# Altium integrated library Actel ProASIC3.IntLib: 465 symbols (part 19 of 68)
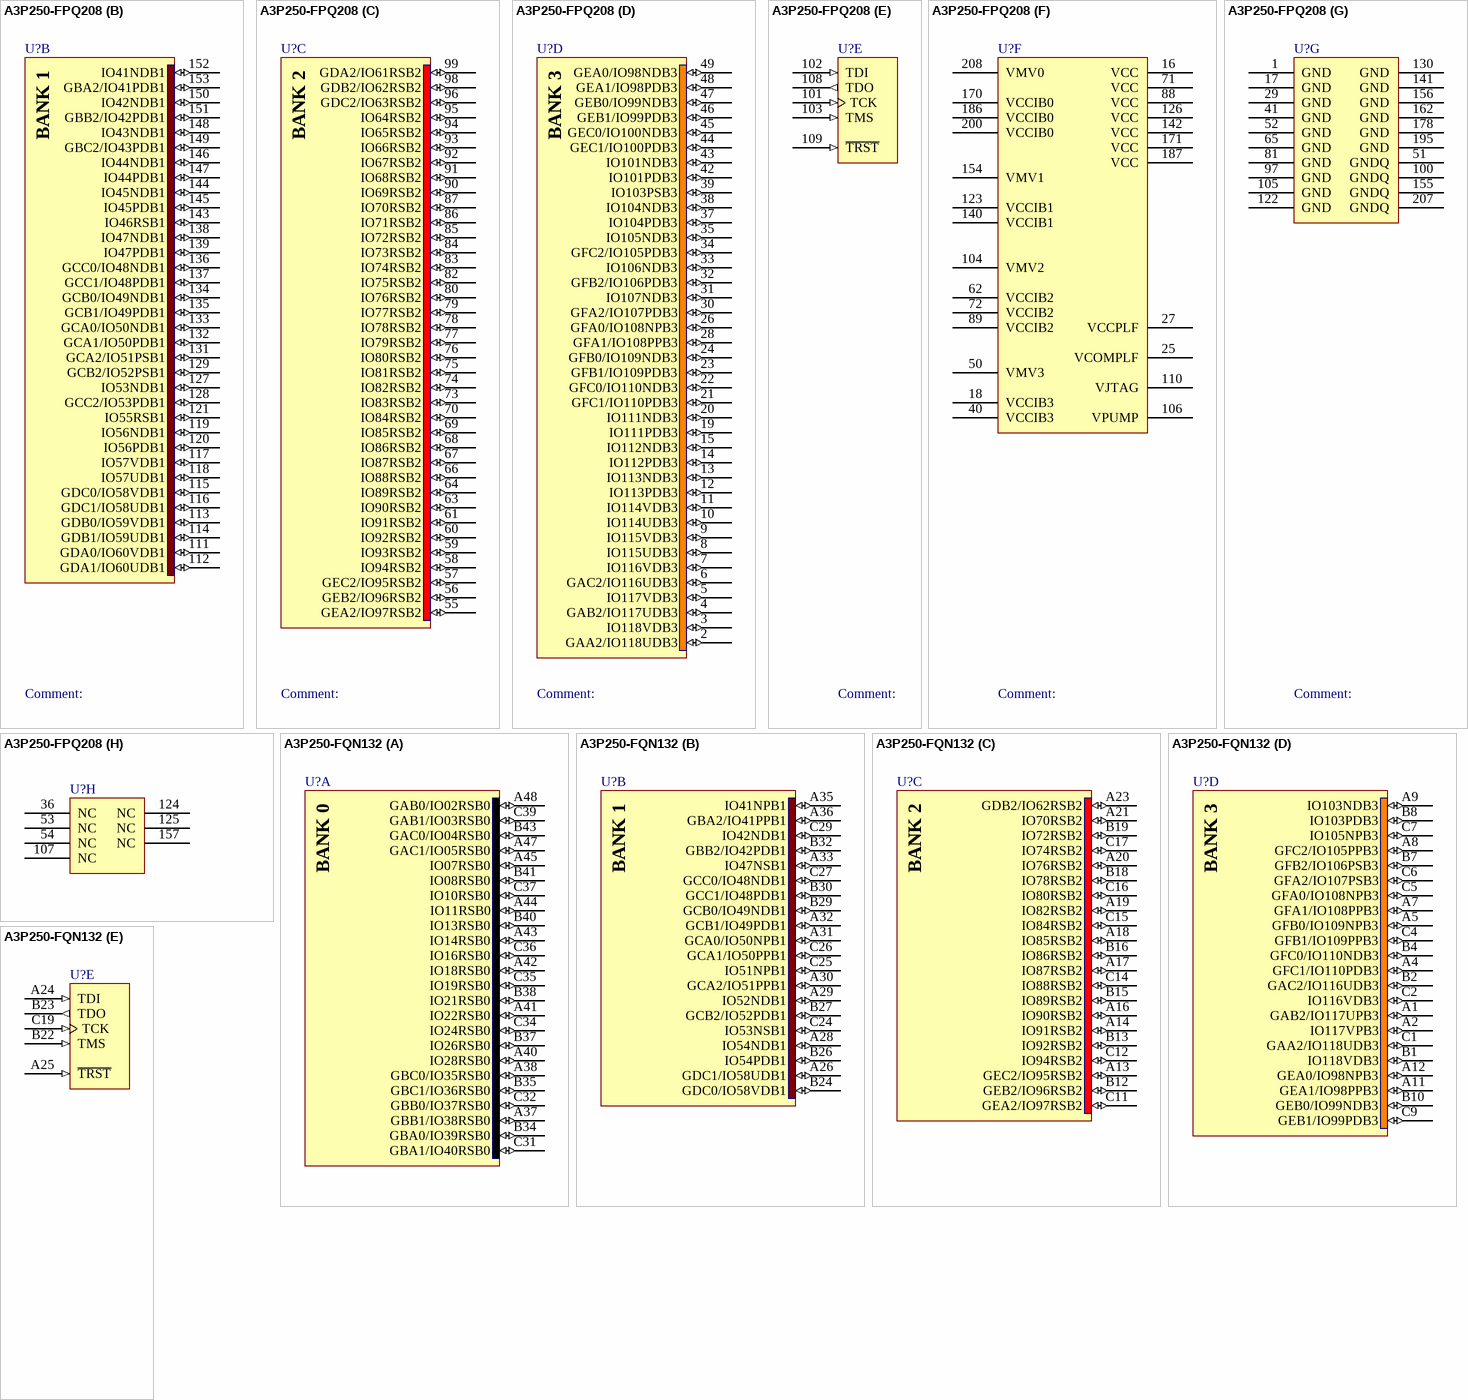
[diagram p333: symbols A3P250-FPQ208 to A3P250-FQN132]

## A3P250-FPQ208
designator U?
ProASIC3 Flash Family FPGA, 151 User IOs, 250K System Gates, 36 Kbits RAM, 1 Kbit Flash ROM, 1 PLL, 208-Pin PQFP, Commercial Grade; ComponentAvailability: F speed grade removed in ver1.3, Oct-2009 datasheet.; Published: 4-Mar-2005; LatestRevisionDate: 11-Dec-2009; LatestRevisionNote: Updated to datasheet version 1.3 Oct-2009.; DatasheetVersion: v1.1, Feb-2009; PackageVersion: ver11.2, Nov-2009; PackageReference: PQ208; Publisher: Altium Limited; PackageDescription: 208-Pin Plastic Quad Flat Pack (PQ208); Code_JEDEC: MS-029-FA-1; ComponentLink1Description: ProASIC3 Datasheet; ComponentLink1URL: http://www.actel.com/documents/PA3_DS.pdf; ComponentLink2Description: Package Mechanical Drawings; ComponentLink2URL: http://www.actel.com/documents/PckgMechDrwngs.pdf; ComponentLink3Description: ProASIC3 Documents; ComponentLink3URL: http://www.actel.com/products/pa3/docs.aspx; ComponentLink4Description: Actel.com Home; ComponentLink4URL: http://www.actel.com/
footprint PQ208_N (Shrink QFP, 208-Leads, Body 28x28mm, Pitch 0.5mm, IPC Medium Density)
footprint PQ208_L (Shrink QFP, 208-Leads, Body 28x28mm, Pitch 0.5mm, IPC High Density)
footprint PQ208_M (Shrink QFP, 208-Leads, Body 28x28mm, Pitch 0.5mm, IPC Low Density)
signal-integrity model A3P250_PQ208 (ProASIC3)
part A pins: 158 GBA1/IO40RSB0 (io), 159 GBA0/IO39RSB0 (io), 160 GBB1/IO38RSB0 (io), 161 GBB0/IO37RSB0 (io), 163 GBC1/IO36RSB0 (io), 164 GBC0/IO35RSB0 (io), 165 IO34RSB0 (io), 166 IO33RSB0 (io), 167 IO32RSB0 (io), 168 IO31RSB0 (io), 169 IO30RSB0 (io), 172 IO29RSB0 (io), 173 IO28RSB0 (io), 174 IO27RSB0 (io), 175 IO26RSB0 (io), 176 IO25RSB0 (io), 177 IO24RSB0 (io), 179 IO23RSB0 (io), 180 IO22RSB0 (io), 181 IO21RSB0 (io), 182 IO20RSB0 (io), 183 IO19RSB0 (io), 184 IO18RSB0 (io), 185 IO17RSB0 (io), 188 IO16RSB0 (io), 189 IO15RSB0 (io), 190 IO14RSB0 (io), 191 IO13RSB0 (io), 192 IO12RSB0 (io), 193 IO11RSB0 (io), 194 IO10RSB0 (io), 196 IO09RSB0 (io), 197 IO08RSB0 (io), 198 IO07RSB0 (io), 199 IO06RSB0 (io), 201 GAC1/IO05RSB0 (io), 202 GAC0/IO04RSB0 (io), 203 GAB1/IO03RSB0 (io), 204 GAB0/IO02RSB0 (io), 205 GAA1/IO01RSB0 (io), 206 GAA0/IO00RSB0 (io)
part B pins: 111 GDA0/IO60VDB1 (io), 112 GDA1/IO60UDB1 (io), 113 GDB0/IO59VDB1 (io), 114 GDB1/IO59UDB1 (io), 115 GDC0/IO58VDB1 (io), 116 GDC1/IO58UDB1 (io), 117 IO57VDB1 (io), 118 IO57UDB1 (io), 119 IO56NDB1 (io), 120 IO56PDB1 (io), 121 IO55RSB1 (io), 127 IO53NDB1 (io), 128 GCC2/IO53PDB1 (io), 129 GCB2/IO52PSB1 (io), 131 GCA2/IO51PSB1 (io), 132 GCA1/IO50PDB1 (io), 133 GCA0/IO50NDB1 (io), 134 GCB0/IO49NDB1 (io), 135 GCB1/IO49PDB1 (io), 136 GCC0/IO48NDB1 (io), 137 GCC1/IO48PDB1 (io), 138 IO47NDB1 (io), 139 IO47PDB1 (io), 143 IO46RSB1 (io), 144 IO45NDB1 (io), 145 IO45PDB1 (io), 146 IO44NDB1 (io), 147 IO44PDB1 (io), 148 IO43NDB1 (io), 149 GBC2/IO43PDB1 (io), 150 IO42NDB1 (io), 151 GBB2/IO42PDB1 (io), 152 IO41NDB1 (io), 153 GBA2/IO41PDB1 (io)
part C pins: 55 GEA2/IO97RSB2 (io), 56 GEB2/IO96RSB2 (io), 57 GEC2/IO95RSB2 (io), 58 IO94RSB2 (io), 59 IO93RSB2 (io), 60 IO92RSB2 (io), 61 IO91RSB2 (io), 63 IO90RSB2 (io), 64 IO89RSB2 (io), 66 IO88RSB2 (io), 67 IO87RSB2 (io), 68 IO86RSB2 (io), 69 IO85RSB2 (io), 70 IO84RSB2 (io), 73 IO83RSB2 (io), 74 IO82RSB2 (io), 75 IO81RSB2 (io), 76 IO80RSB2 (io), 77 IO79RSB2 (io), 78 IO78RSB2 (io), 79 IO77RSB2 (io), 80 IO76RSB2 (io), 82 IO75RSB2 (io), 83 IO74RSB2 (io), 84 IO73RSB2 (io), 85 IO72RSB2 (io), 86 IO71RSB2 (io), 87 IO70RSB2 (io), 90 IO69RSB2 (io), 91 IO68RSB2 (io), 92 IO67RSB2 (io), 93 IO66RSB2 (io), 94 IO65RSB2 (io), 95 IO64RSB2 (io), 96 GDC2/IO63RSB2 (io), 98 GDB2/IO62RSB2 (io), 99 GDA2/IO61RSB2 (io)
part D pins: 2 GAA2/IO118UDB3 (io), 3 IO118VDB3 (io), 4 GAB2/IO117UDB3 (io), 5 IO117VDB3 (io), 6 GAC2/IO116UDB3 (io), 7 IO116VDB3 (io), 8 IO115UDB3 (io), 9 IO115VDB3 (io), 10 IO114UDB3 (io), 11 IO114VDB3 (io), 12 IO113PDB3 (io), 13 IO113NDB3 (io), 14 IO112PDB3 (io), 15 IO112NDB3 (io), 19 IO111PDB3 (io), 20 IO111NDB3 (io), 21 GFC1/IO110PDB3 (io), 22 GFC0/IO110NDB3 (io), 23 GFB1/IO109PDB3 (io), 24 GFB0/IO109NDB3 (io), 26 GFA0/IO108NPB3 (io), 28 GFA1/IO108PPB3 (io), 30 GFA2/IO107PDB3 (io), 31 IO107NDB3 (io), 32 GFB2/IO106PDB3 (io), 33 IO106NDB3 (io), 34 GFC2/IO105PDB3 (io), 35 IO105NDB3 (io), 37 IO104PDB3 (io), 38 IO104NDB3 (io), 39 IO103PSB3 (io), 42 IO101PDB3 (io), 43 IO101NDB3 (io), 44 GEC1/IO100PDB3 (io), 45 GEC0/IO100NDB3 (io), 46 GEB1/IO99PDB3 (io), 47 GEB0/IO99NDB3 (io), 48 GEA1/IO98PDB3 (io), 49 GEA0/IO98NDB3 (io)
part E pins: 101 TCK (in), 102 TDI (in), 103 TMS (in), 108 TDO (out), 109 ~{TRST} (in)
part F pins: 16 VCC (power), 18 VCCIB3 (power), 25 VCOMPLF (power), 27 VCCPLF (power), 40 VCCIB3 (power), 50 VMV3 (power), 62 VCCIB2 (power), 71 VCC (power), 72 VCCIB2 (power), 88 VCC (power), 89 VCCIB2 (power), 104 VMV2 (power), 106 VPUMP (power), 110 VJTAG (power), 123 VCCIB1 (power), 126 VCC (power), 140 VCCIB1 (power), 142 VCC (power), 154 VMV1 (power), 170 VCCIB0 (power), 171 VCC (power), 186 VCCIB0 (power), 187 VCC (power), 200 VCCIB0 (power), 208 VMV0 (power)
part G pins: 1 GND (power), 17 GND (power), 29 GND (power), 41 GND (power), 51 GNDQ (power), 52 GND (power), 65 GND (power), 81 GND (power), 97 GND (power), 100 GNDQ (power), 105 GND (power), 122 GND (power), 130 GND (power), 141 GND (power), 155 GNDQ (power), 156 GND (power), 162 GND (power), 178 GND (power), 195 GND (power), 207 GNDQ (power)
part H pins: 36 NC, 53 NC, 54 NC, 107 NC, 124 NC, 125 NC, 157 NC
part A text: BANK 0
part B text: BANK 1
part C text: BANK 2
part D text: BANK 3

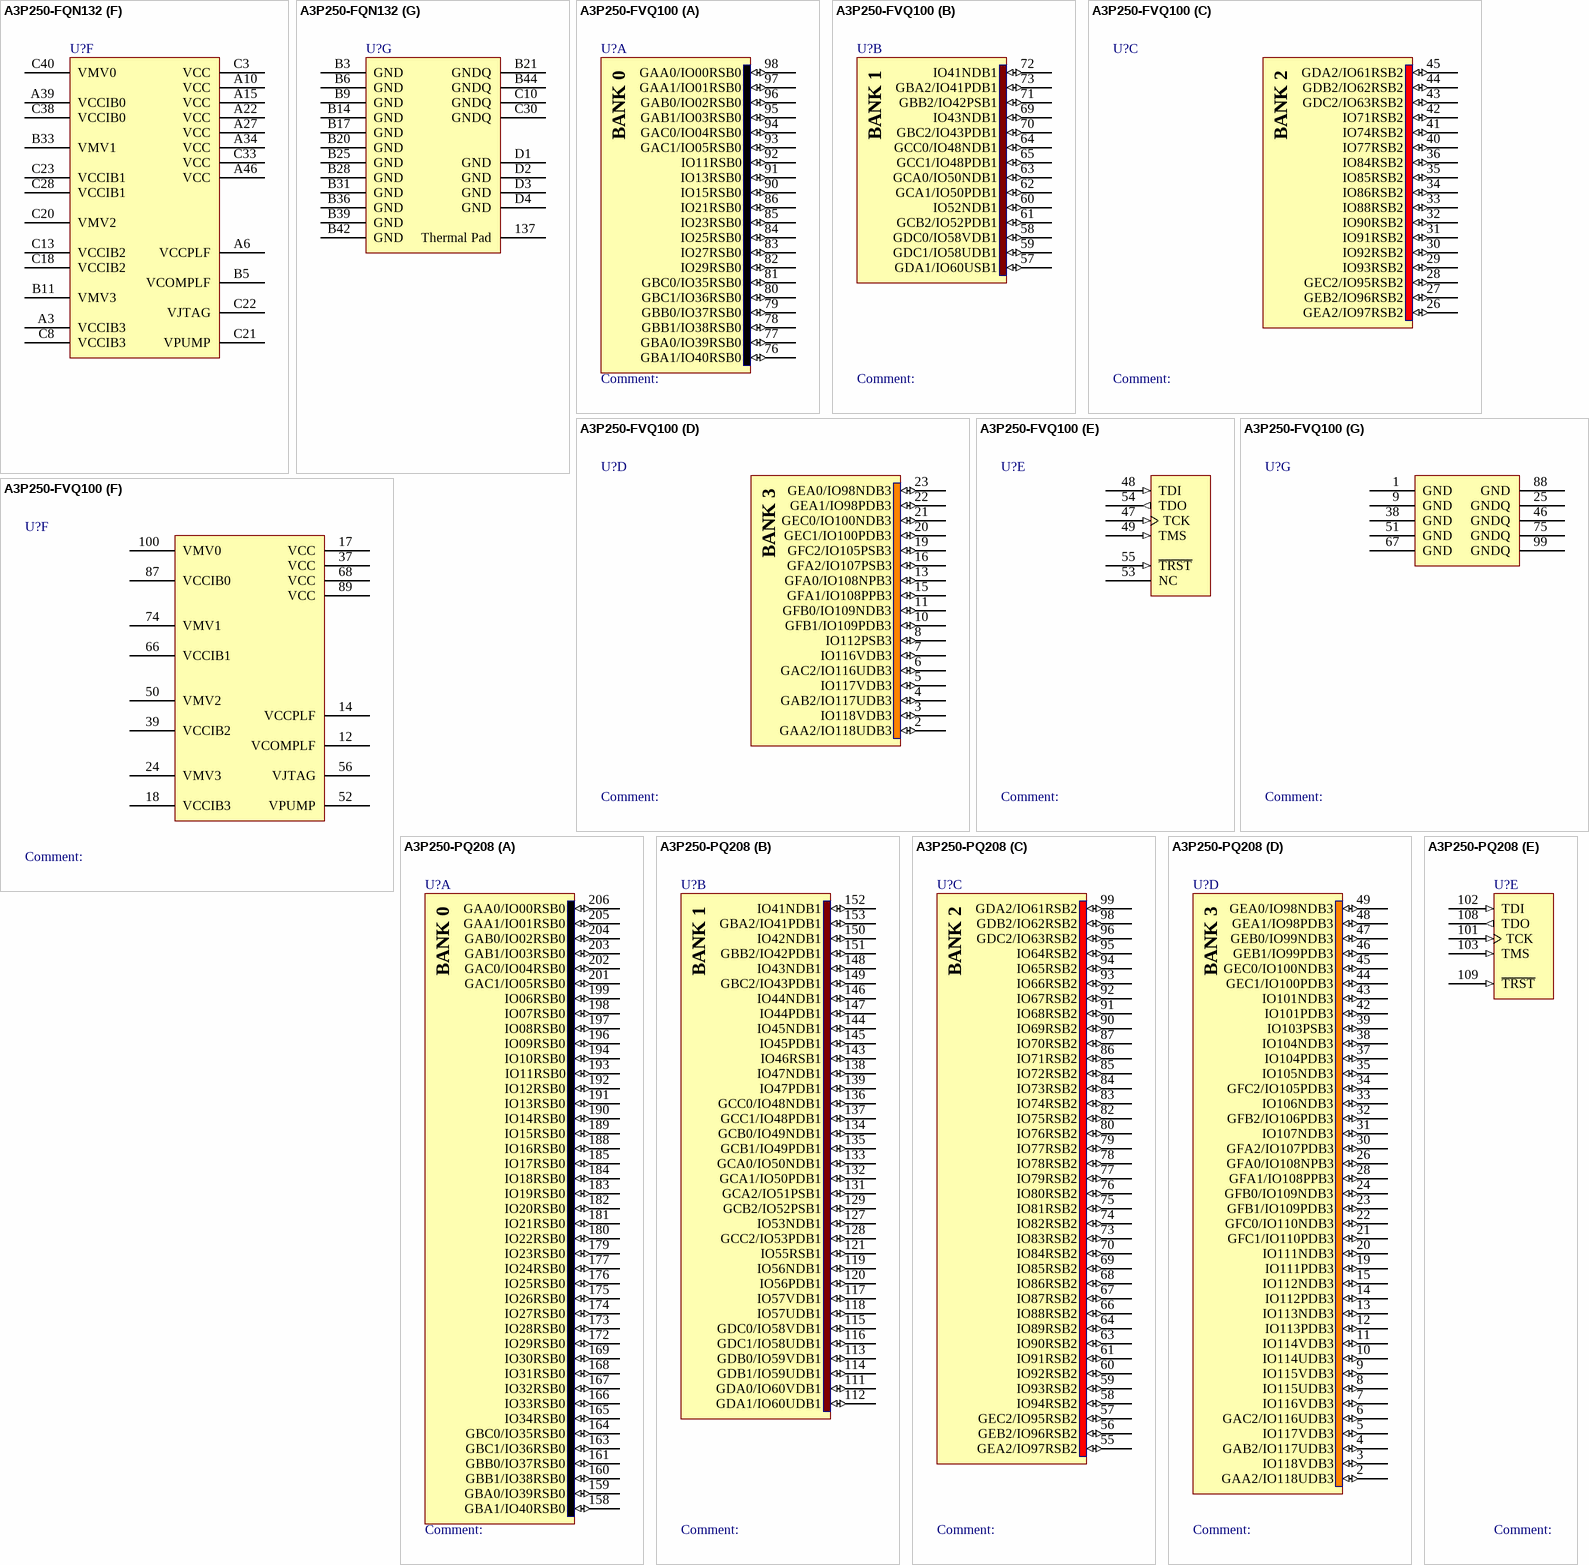
[diagram p77: symbols A3P250-FQN132 to A3P250-PQ208]

## A3P250-FQN132
designator U?
ProASIC3 Flash Family FPGA, 87 User IOs, 250K System Gates, 36 Kbits RAM, 1 Kbit ProASIC3 Flash ROM, 1 PLL, 132-Pin QFN, Commercial Grade; ComponentAvailability: F speed grade removed in ver1.3, Oct-2009 datasheet.; Published: 30-Mar-2007; LatestRevisionDate: 11-Dec-2009; LatestRevisionNote: Updated to datasheet version 1.3 Oct-2009.; DatasheetVersion: v1.1, Feb-2009; PackageVersion: ver11.2, Nov-2009; PackageReference: QN132; Publisher: Altium Limited; PackageDescription: 132-Pin Quad Flat Pack No-Leads (QN132); ComponentLink1Description: ProASIC3 Datasheet; ComponentLink1URL: http://www.actel.com/documents/PA3_DS.pdf; ComponentLink2Description: Package Mechanical Drawings; ComponentLink2URL: http://www.actel.com/documents/PckgMechDrwngs.pdf; ComponentLink3Description: ProASIC3 Documents; ComponentLink3URL: http://www.actel.com/products/pa3/docs.aspx; ComponentLink4Description: Actel.com Home; ComponentLink4URL: http://www.actel.com/
footprint QN132 (QFN, 132-Leads, Body 8x8mm, Pitch 0.5mm)
signal-integrity model A3P250_QN132 (ProASIC3)
part A pins: A37 GBB1/IO38RSB0 (io), A38 GBC0/IO35RSB0 (io), A40 IO28RSB0 (io), A41 IO22RSB0 (io), A42 IO18RSB0 (io), A43 IO14RSB0 (io), A44 IO11RSB0 (io), A45 IO07RSB0 (io), A47 GAC1/IO05RSB0 (io), A48 GAB0/IO02RSB0 (io), B34 GBA0/IO39RSB0 (io), B35 GBC1/IO36RSB0 (io), B37 IO26RSB0 (io), B38 IO21RSB0 (io), B40 IO13RSB0 (io), B41 IO08RSB0 (io), B43 GAC0/IO04RSB0 (io), C31 GBA1/IO40RSB0 (io), C32 GBB0/IO37RSB0 (io), C34 IO24RSB0 (io), C35 IO19RSB0 (io), C36 IO16RSB0 (io), C37 IO10RSB0 (io), C39 GAB1/IO03RSB0 (io)
part B pins: A26 GDC1/IO58UDB1 (io), A28 IO54NDB1 (io), A29 IO52NDB1 (io), A30 GCA2/IO51PPB1 (io), A31 GCA0/IO50NPB1 (io), A32 GCB1/IO49PDB1 (io), A33 IO47NSB1 (io), A35 IO41NPB1 (io), A36 GBA2/IO41PPB1 (io), B24 GDC0/IO58VDB1 (io), B26 IO54PDB1 (io), B27 GCB2/IO52PDB1 (io), B29 GCB0/IO49NDB1 (io), B30 GCC1/IO48PDB1 (io), B32 GBB2/IO42PDB1 (io), C24 IO53NSB1 (io), C25 IO51NPB1 (io), C26 GCA1/IO50PPB1 (io), C27 GCC0/IO48NDB1 (io), C29 IO42NDB1 (io)
part C pins: A13 GEC2/IO95RSB2 (io), A14 IO91RSB2 (io), A16 IO90RSB2 (io), A17 IO87RSB2 (io), A18 IO85RSB2 (io), A19 IO82RSB2 (io), A20 IO76RSB2 (io), A21 IO70RSB2 (io), A23 GDB2/IO62RSB2 (io), B12 GEB2/IO96RSB2 (io), B13 IO92RSB2 (io), B15 IO89RSB2 (io), B16 IO86RSB2 (io), B18 IO78RSB2 (io), B19 IO72RSB2 (io), C11 GEA2/IO97RSB2 (io), C12 IO94RSB2 (io), C14 IO88RSB2 (io), C15 IO84RSB2 (io), C16 IO80RSB2 (io), C17 IO74RSB2 (io)
part D pins: A1 GAB2/IO117UPB3 (io), A2 IO117VPB3 (io), A4 GFC1/IO110PDB3 (io), A5 GFB0/IO109NPB3 (io), A7 GFA1/IO108PPB3 (io), A8 GFC2/IO105PPB3 (io), A9 IO103NDB3 (io), A11 GEA1/IO98PPB3 (io), A12 GEA0/IO98NPB3 (io), B1 IO118VDB3 (io), B2 GAC2/IO116UDB3 (io), B4 GFC0/IO110NDB3 (io), B7 GFB2/IO106PSB3 (io), B8 IO103PDB3 (io), B10 GEB0/IO99NDB3 (io), C1 GAA2/IO118UDB3 (io), C2 IO116VDB3 (io), C4 GFB1/IO109PPB3 (io), C5 GFA0/IO108NPB3 (io), C6 GFA2/IO107PSB3 (io), C7 IO105NPB3 (io), C9 GEB1/IO99PDB3 (io)
part E pins: A24 TDI (in), A25 ~{TRST} (in), B22 TMS (in), B23 TDO (out), C19 TCK (in)
part F pins: A3 VCCIB3 (power), A6 VCCPLF (power), A10 VCC (power), A15 VCC (power), A22 VCC (power), A27 VCC (power), A34 VCC (power), A39 VCCIB0 (power), A46 VCC (power), B5 VCOMPLF (power), B11 VMV3 (power), B33 VMV1 (power), C3 VCC (power), C8 VCCIB3 (power), C13 VCCIB2 (power), C18 VCCIB2 (power), C20 VMV2 (power), C21 VPUMP (power), C22 VJTAG (power), C23 VCCIB1 (power), C28 VCCIB1 (power), C33 VCC (power), C38 VCCIB0 (power), C40 VMV0 (power)
part G pins: 137 Thermal Pad (power), B3 GND (power), B6 GND (power), B9 GND (power), B14 GND (power), B17 GND (power), B20 GND (power), B21 GNDQ (power), B25 GND (power), B28 GND (power), B31 GND (power), B36 GND (power), B39 GND (power), B42 GND (power), B44 GNDQ (power), C10 GNDQ (power), C30 GNDQ (power), D1 GND (power), D2 GND (power), D3 GND (power), D4 GND (power)
part A text: BANK 0
part B text: BANK 1
part C text: BANK 2
part D text: BANK 3

## A3P250-FVQ100
designator U?
ProASIC3 Flash Family FPGA, 68 User IOs, 250K System Gates, 36 Kbits RAM, 1 Kbit Flash ROM, 1 PLL, 100-Pin VQFP, Commercial Grade; ComponentAvailability: F speed grade removed in ver1.3, Oct-2009 datasheet.; Published: 4-Mar-2005; LatestRevisionDate: 11-Dec-2009; LatestRevisionNote: Updated to datasheet version 1.3 Oct-2009.; DatasheetVersion: v1.1, Feb-2009; PackageVersion: ver11.2, Nov-2009; PackageReference: VQ100; Publisher: Altium Limited; PackageDescription: 100-Pin Plastic Quad Flat Pack (VQ100); Code_JEDEC: MS-026-AED; ComponentLink1Description: ProASIC3 Datasheet; ComponentLink1URL: http://www.actel.com/documents/PA3_DS.pdf; ComponentLink2Description: Package Mechanical Drawings; ComponentLink2URL: http://www.actel.com/documents/PckgMechDrwngs.pdf; ComponentLink3Description: ProASIC3 Documents; ComponentLink3URL: http://www.actel.com/products/pa3/docs.aspx; ComponentLink4Description: Actel.com Home; ComponentLink4URL: http://www.actel.com/
footprint VQ100_N (Thin QFP, 100-Leads, Body 14x14mm, Pitch 0.5mm, IPC Medium Density)
footprint VQ100_L (Thin QFP, 100-Leads, Body 14x14mm, Pitch 0.5mm, IPC High Density)
footprint VQ100_M (Thin QFP, 100-Leads, Body 14x14mm, Pitch 0.5mm, IPC Low Density)
signal-integrity model A3P250_VQ100 (ProASIC3)
part A pins: 76 GBA1/IO40RSB0 (io), 77 GBA0/IO39RSB0 (io), 78 GBB1/IO38RSB0 (io), 79 GBB0/IO37RSB0 (io), 80 GBC1/IO36RSB0 (io), 81 GBC0/IO35RSB0 (io), 82 IO29RSB0 (io), 83 IO27RSB0 (io), 84 IO25RSB0 (io), 85 IO23RSB0 (io), 86 IO21RSB0 (io), 90 IO15RSB0 (io), 91 IO13RSB0 (io), 92 IO11RSB0 (io), 93 GAC1/IO05RSB0 (io), 94 GAC0/IO04RSB0 (io), 95 GAB1/IO03RSB0 (io), 96 GAB0/IO02RSB0 (io), 97 GAA1/IO01RSB0 (io), 98 GAA0/IO00RSB0 (io)
part B pins: 57 GDA1/IO60USB1 (io), 58 GDC0/IO58VDB1 (io), 59 GDC1/IO58UDB1 (io), 60 IO52NDB1 (io), 61 GCB2/IO52PDB1 (io), 62 GCA1/IO50PDB1 (io), 63 GCA0/IO50NDB1 (io), 64 GCC0/IO48NDB1 (io), 65 GCC1/IO48PDB1 (io), 69 IO43NDB1 (io), 70 GBC2/IO43PDB1 (io), 71 GBB2/IO42PSB1 (io), 72 IO41NDB1 (io), 73 GBA2/IO41PDB1 (io)
part C pins: 26 GEA2/IO97RSB2 (io), 27 GEB2/IO96RSB2 (io), 28 GEC2/IO95RSB2 (io), 29 IO93RSB2 (io), 30 IO92RSB2 (io), 31 IO91RSB2 (io), 32 IO90RSB2 (io), 33 IO88RSB2 (io), 34 IO86RSB2 (io), 35 IO85RSB2 (io), 36 IO84RSB2 (io), 40 IO77RSB2 (io), 41 IO74RSB2 (io), 42 IO71RSB2 (io), 43 GDC2/IO63RSB2 (io), 44 GDB2/IO62RSB2 (io), 45 GDA2/IO61RSB2 (io)
part D pins: 2 GAA2/IO118UDB3 (io), 3 IO118VDB3 (io), 4 GAB2/IO117UDB3 (io), 5 IO117VDB3 (io), 6 GAC2/IO116UDB3 (io), 7 IO116VDB3 (io), 8 IO112PSB3 (io), 10 GFB1/IO109PDB3 (io), 11 GFB0/IO109NDB3 (io), 13 GFA0/IO108NPB3 (io), 15 GFA1/IO108PPB3 (io), 16 GFA2/IO107PSB3 (io), 19 GFC2/IO105PSB3 (io), 20 GEC1/IO100PDB3 (io), 21 GEC0/IO100NDB3 (io), 22 GEA1/IO98PDB3 (io), 23 GEA0/IO98NDB3 (io)
part E pins: 47 TCK (in), 48 TDI (in), 49 TMS (in), 53 NC, 54 TDO (out), 55 ~{TRST} (in)
part F pins: 12 VCOMPLF (power), 14 VCCPLF (power), 17 VCC (power), 18 VCCIB3 (power), 24 VMV3 (power), 37 VCC (power), 39 VCCIB2 (power), 50 VMV2 (power), 52 VPUMP (power), 56 VJTAG (power), 66 VCCIB1 (power), 68 VCC (power), 74 VMV1 (power), 87 VCCIB0 (power), 89 VCC (power), 100 VMV0 (power)
part G pins: 1 GND (power), 9 GND (power), 25 GNDQ (power), 38 GND (power), 46 GNDQ (power), 51 GND (power), 67 GND (power), 75 GNDQ (power), 88 GND (power), 99 GNDQ (power)
part A text: BANK 0
part B text: BANK 1
part C text: BANK 2
part D text: BANK 3

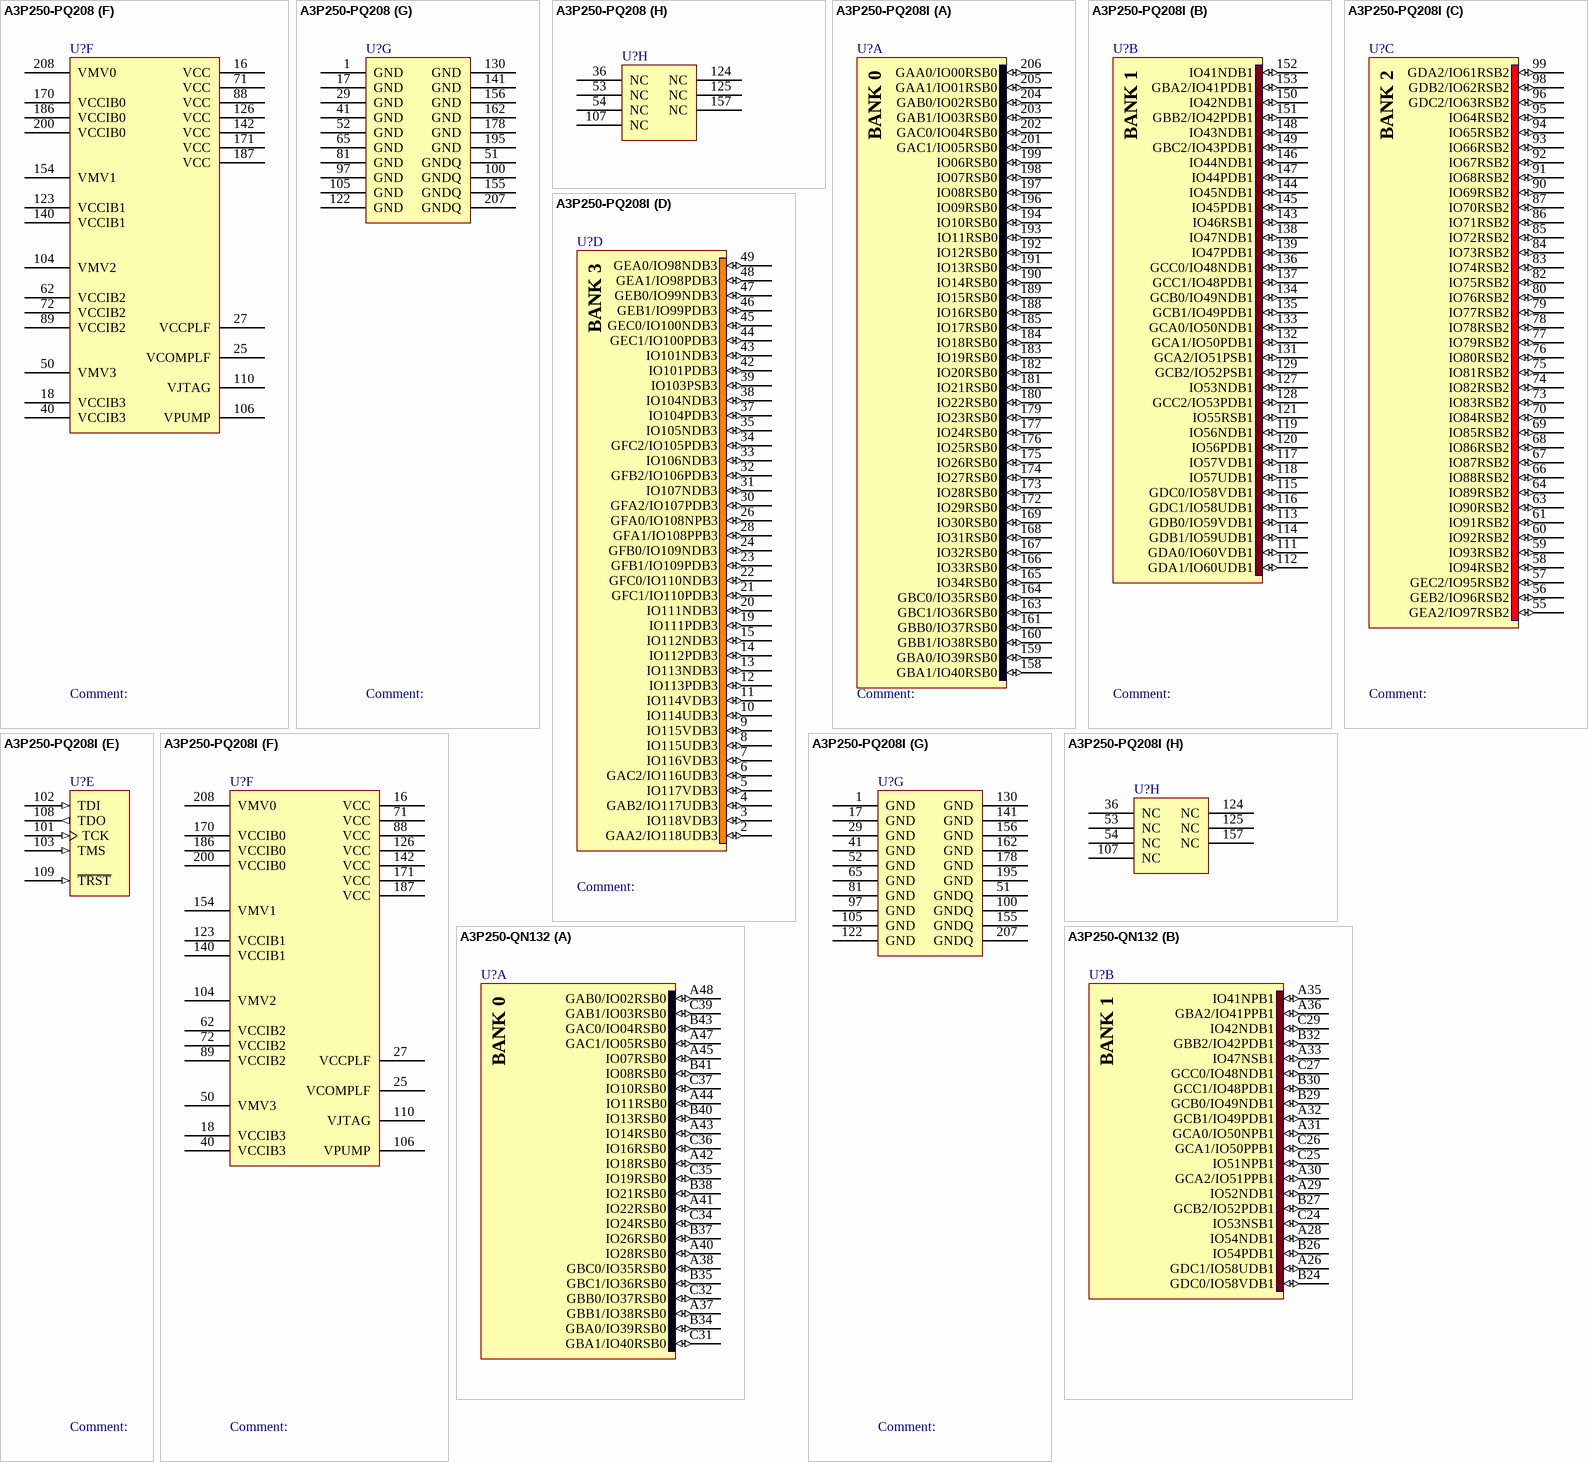
[diagram p78: symbols A3P250-PQ208 to A3P250-QN132]

## A3P250-PQ208
designator U?
ProASIC3 Flash Family FPGA, 151 User IOs, 250K System Gates, 36 Kbits RAM, 1 Kbit Flash ROM, 1 PLL, 208-Pin PQFP, Commercial Grade; Published: 4-Mar-2005; LatestRevisionDate: 11-Dec-2009; LatestRevisionNote: Updated to datasheet version 1.3 Oct-2009.; DatasheetVersion: v1.3, Oct-2009; PackageVersion: ver11.2, Nov-2009; PackageReference: PQ208; Publisher: Altium Limited; PackageDescription: 208-Pin Plastic Quad Flat Pack (PQ208); Code_JEDEC: MS-029-FA-1; ComponentLink1Description: ProASIC3 Datasheet; ComponentLink1URL: http://www.actel.com/documents/PA3_DS.pdf; ComponentLink2Description: Package Mechanical Drawings; ComponentLink2URL: http://www.actel.com/documents/PckgMechDrwngs.pdf; ComponentLink3Description: ProASIC3 Documents; ComponentLink3URL: http://www.actel.com/products/pa3/docs.aspx; ComponentLink4Description: Actel.com Home; ComponentLink4URL: http://www.actel.com/
footprint PQ208_N (Shrink QFP, 208-Leads, Body 28x28mm, Pitch 0.5mm, IPC Medium Density)
footprint PQ208_L (Shrink QFP, 208-Leads, Body 28x28mm, Pitch 0.5mm, IPC High Density)
footprint PQ208_M (Shrink QFP, 208-Leads, Body 28x28mm, Pitch 0.5mm, IPC Low Density)
signal-integrity model A3P250_PQ208 (ProASIC3)
part A pins: 158 GBA1/IO40RSB0 (io), 159 GBA0/IO39RSB0 (io), 160 GBB1/IO38RSB0 (io), 161 GBB0/IO37RSB0 (io), 163 GBC1/IO36RSB0 (io), 164 GBC0/IO35RSB0 (io), 165 IO34RSB0 (io), 166 IO33RSB0 (io), 167 IO32RSB0 (io), 168 IO31RSB0 (io), 169 IO30RSB0 (io), 172 IO29RSB0 (io), 173 IO28RSB0 (io), 174 IO27RSB0 (io), 175 IO26RSB0 (io), 176 IO25RSB0 (io), 177 IO24RSB0 (io), 179 IO23RSB0 (io), 180 IO22RSB0 (io), 181 IO21RSB0 (io), 182 IO20RSB0 (io), 183 IO19RSB0 (io), 184 IO18RSB0 (io), 185 IO17RSB0 (io), 188 IO16RSB0 (io), 189 IO15RSB0 (io), 190 IO14RSB0 (io), 191 IO13RSB0 (io), 192 IO12RSB0 (io), 193 IO11RSB0 (io), 194 IO10RSB0 (io), 196 IO09RSB0 (io), 197 IO08RSB0 (io), 198 IO07RSB0 (io), 199 IO06RSB0 (io), 201 GAC1/IO05RSB0 (io), 202 GAC0/IO04RSB0 (io), 203 GAB1/IO03RSB0 (io), 204 GAB0/IO02RSB0 (io), 205 GAA1/IO01RSB0 (io), 206 GAA0/IO00RSB0 (io)
part B pins: 111 GDA0/IO60VDB1 (io), 112 GDA1/IO60UDB1 (io), 113 GDB0/IO59VDB1 (io), 114 GDB1/IO59UDB1 (io), 115 GDC0/IO58VDB1 (io), 116 GDC1/IO58UDB1 (io), 117 IO57VDB1 (io), 118 IO57UDB1 (io), 119 IO56NDB1 (io), 120 IO56PDB1 (io), 121 IO55RSB1 (io), 127 IO53NDB1 (io), 128 GCC2/IO53PDB1 (io), 129 GCB2/IO52PSB1 (io), 131 GCA2/IO51PSB1 (io), 132 GCA1/IO50PDB1 (io), 133 GCA0/IO50NDB1 (io), 134 GCB0/IO49NDB1 (io), 135 GCB1/IO49PDB1 (io), 136 GCC0/IO48NDB1 (io), 137 GCC1/IO48PDB1 (io), 138 IO47NDB1 (io), 139 IO47PDB1 (io), 143 IO46RSB1 (io), 144 IO45NDB1 (io), 145 IO45PDB1 (io), 146 IO44NDB1 (io), 147 IO44PDB1 (io), 148 IO43NDB1 (io), 149 GBC2/IO43PDB1 (io), 150 IO42NDB1 (io), 151 GBB2/IO42PDB1 (io), 152 IO41NDB1 (io), 153 GBA2/IO41PDB1 (io)
part C pins: 55 GEA2/IO97RSB2 (io), 56 GEB2/IO96RSB2 (io), 57 GEC2/IO95RSB2 (io), 58 IO94RSB2 (io), 59 IO93RSB2 (io), 60 IO92RSB2 (io), 61 IO91RSB2 (io), 63 IO90RSB2 (io), 64 IO89RSB2 (io), 66 IO88RSB2 (io), 67 IO87RSB2 (io), 68 IO86RSB2 (io), 69 IO85RSB2 (io), 70 IO84RSB2 (io), 73 IO83RSB2 (io), 74 IO82RSB2 (io), 75 IO81RSB2 (io), 76 IO80RSB2 (io), 77 IO79RSB2 (io), 78 IO78RSB2 (io), 79 IO77RSB2 (io), 80 IO76RSB2 (io), 82 IO75RSB2 (io), 83 IO74RSB2 (io), 84 IO73RSB2 (io), 85 IO72RSB2 (io), 86 IO71RSB2 (io), 87 IO70RSB2 (io), 90 IO69RSB2 (io), 91 IO68RSB2 (io), 92 IO67RSB2 (io), 93 IO66RSB2 (io), 94 IO65RSB2 (io), 95 IO64RSB2 (io), 96 GDC2/IO63RSB2 (io), 98 GDB2/IO62RSB2 (io), 99 GDA2/IO61RSB2 (io)
part D pins: 2 GAA2/IO118UDB3 (io), 3 IO118VDB3 (io), 4 GAB2/IO117UDB3 (io), 5 IO117VDB3 (io), 6 GAC2/IO116UDB3 (io), 7 IO116VDB3 (io), 8 IO115UDB3 (io), 9 IO115VDB3 (io), 10 IO114UDB3 (io), 11 IO114VDB3 (io), 12 IO113PDB3 (io), 13 IO113NDB3 (io), 14 IO112PDB3 (io), 15 IO112NDB3 (io), 19 IO111PDB3 (io), 20 IO111NDB3 (io), 21 GFC1/IO110PDB3 (io), 22 GFC0/IO110NDB3 (io), 23 GFB1/IO109PDB3 (io), 24 GFB0/IO109NDB3 (io), 26 GFA0/IO108NPB3 (io), 28 GFA1/IO108PPB3 (io), 30 GFA2/IO107PDB3 (io), 31 IO107NDB3 (io), 32 GFB2/IO106PDB3 (io), 33 IO106NDB3 (io), 34 GFC2/IO105PDB3 (io), 35 IO105NDB3 (io), 37 IO104PDB3 (io), 38 IO104NDB3 (io), 39 IO103PSB3 (io), 42 IO101PDB3 (io), 43 IO101NDB3 (io), 44 GEC1/IO100PDB3 (io), 45 GEC0/IO100NDB3 (io), 46 GEB1/IO99PDB3 (io), 47 GEB0/IO99NDB3 (io), 48 GEA1/IO98PDB3 (io), 49 GEA0/IO98NDB3 (io)
part E pins: 101 TCK (in), 102 TDI (in), 103 TMS (in), 108 TDO (out), 109 ~{TRST} (in)
part F pins: 16 VCC (power), 18 VCCIB3 (power), 25 VCOMPLF (power), 27 VCCPLF (power), 40 VCCIB3 (power), 50 VMV3 (power), 62 VCCIB2 (power), 71 VCC (power), 72 VCCIB2 (power), 88 VCC (power), 89 VCCIB2 (power), 104 VMV2 (power), 106 VPUMP (power), 110 VJTAG (power), 123 VCCIB1 (power), 126 VCC (power), 140 VCCIB1 (power), 142 VCC (power), 154 VMV1 (power), 170 VCCIB0 (power), 171 VCC (power), 186 VCCIB0 (power), 187 VCC (power), 200 VCCIB0 (power), 208 VMV0 (power)
part G pins: 1 GND (power), 17 GND (power), 29 GND (power), 41 GND (power), 51 GNDQ (power), 52 GND (power), 65 GND (power), 81 GND (power), 97 GND (power), 100 GNDQ (power), 105 GND (power), 122 GND (power), 130 GND (power), 141 GND (power), 155 GNDQ (power), 156 GND (power), 162 GND (power), 178 GND (power), 195 GND (power), 207 GNDQ (power)
part H pins: 36 NC, 53 NC, 54 NC, 107 NC, 124 NC, 125 NC, 157 NC
part A text: BANK 0
part B text: BANK 1
part C text: BANK 2
part D text: BANK 3

## A3P250-PQ208I
designator U?
ProASIC3 Flash Family FPGA, 151 User IOs, 250K System Gates, 36 Kbits RAM, 1 Kbit Flash ROM, 1 PLL, 208-Pin PQFP, Industrial Grade; Published: 4-Mar-2005; LatestRevisionDate: 11-Dec-2009; LatestRevisionNote: Updated to datasheet version 1.3 Oct-2009.; DatasheetVersion: v1.3, Oct-2009; PackageVersion: ver11.2, Nov-2009; PackageReference: PQ208; Publisher: Altium Limited; PackageDescription: 208-Pin Plastic Quad Flat Pack (PQ208); Code_JEDEC: MS-029-FA-1; ComponentLink1Description: ProASIC3 Datasheet; ComponentLink1URL: http://www.actel.com/documents/PA3_DS.pdf; ComponentLink2Description: Package Mechanical Drawings; ComponentLink2URL: http://www.actel.com/documents/PckgMechDrwngs.pdf; ComponentLink3Description: ProASIC3 Documents; ComponentLink3URL: http://www.actel.com/products/pa3/docs.aspx; ComponentLink4Description: Actel.com Home; ComponentLink4URL: http://www.actel.com/
footprint PQ208_N (Shrink QFP, 208-Leads, Body 28x28mm, Pitch 0.5mm, IPC Medium Density)
footprint PQ208_L (Shrink QFP, 208-Leads, Body 28x28mm, Pitch 0.5mm, IPC High Density)
footprint PQ208_M (Shrink QFP, 208-Leads, Body 28x28mm, Pitch 0.5mm, IPC Low Density)
signal-integrity model A3P250_PQ208 (ProASIC3)
part A pins: 158 GBA1/IO40RSB0 (io), 159 GBA0/IO39RSB0 (io), 160 GBB1/IO38RSB0 (io), 161 GBB0/IO37RSB0 (io), 163 GBC1/IO36RSB0 (io), 164 GBC0/IO35RSB0 (io), 165 IO34RSB0 (io), 166 IO33RSB0 (io), 167 IO32RSB0 (io), 168 IO31RSB0 (io), 169 IO30RSB0 (io), 172 IO29RSB0 (io), 173 IO28RSB0 (io), 174 IO27RSB0 (io), 175 IO26RSB0 (io), 176 IO25RSB0 (io), 177 IO24RSB0 (io), 179 IO23RSB0 (io), 180 IO22RSB0 (io), 181 IO21RSB0 (io), 182 IO20RSB0 (io), 183 IO19RSB0 (io), 184 IO18RSB0 (io), 185 IO17RSB0 (io), 188 IO16RSB0 (io), 189 IO15RSB0 (io), 190 IO14RSB0 (io), 191 IO13RSB0 (io), 192 IO12RSB0 (io), 193 IO11RSB0 (io), 194 IO10RSB0 (io), 196 IO09RSB0 (io), 197 IO08RSB0 (io), 198 IO07RSB0 (io), 199 IO06RSB0 (io), 201 GAC1/IO05RSB0 (io), 202 GAC0/IO04RSB0 (io), 203 GAB1/IO03RSB0 (io), 204 GAB0/IO02RSB0 (io), 205 GAA1/IO01RSB0 (io), 206 GAA0/IO00RSB0 (io)
part B pins: 111 GDA0/IO60VDB1 (io), 112 GDA1/IO60UDB1 (io), 113 GDB0/IO59VDB1 (io), 114 GDB1/IO59UDB1 (io), 115 GDC0/IO58VDB1 (io), 116 GDC1/IO58UDB1 (io), 117 IO57VDB1 (io), 118 IO57UDB1 (io), 119 IO56NDB1 (io), 120 IO56PDB1 (io), 121 IO55RSB1 (io), 127 IO53NDB1 (io), 128 GCC2/IO53PDB1 (io), 129 GCB2/IO52PSB1 (io), 131 GCA2/IO51PSB1 (io), 132 GCA1/IO50PDB1 (io), 133 GCA0/IO50NDB1 (io), 134 GCB0/IO49NDB1 (io), 135 GCB1/IO49PDB1 (io), 136 GCC0/IO48NDB1 (io), 137 GCC1/IO48PDB1 (io), 138 IO47NDB1 (io), 139 IO47PDB1 (io), 143 IO46RSB1 (io), 144 IO45NDB1 (io), 145 IO45PDB1 (io), 146 IO44NDB1 (io), 147 IO44PDB1 (io), 148 IO43NDB1 (io), 149 GBC2/IO43PDB1 (io), 150 IO42NDB1 (io), 151 GBB2/IO42PDB1 (io), 152 IO41NDB1 (io), 153 GBA2/IO41PDB1 (io)
part C pins: 55 GEA2/IO97RSB2 (io), 56 GEB2/IO96RSB2 (io), 57 GEC2/IO95RSB2 (io), 58 IO94RSB2 (io), 59 IO93RSB2 (io), 60 IO92RSB2 (io), 61 IO91RSB2 (io), 63 IO90RSB2 (io), 64 IO89RSB2 (io), 66 IO88RSB2 (io), 67 IO87RSB2 (io), 68 IO86RSB2 (io), 69 IO85RSB2 (io), 70 IO84RSB2 (io), 73 IO83RSB2 (io), 74 IO82RSB2 (io), 75 IO81RSB2 (io), 76 IO80RSB2 (io), 77 IO79RSB2 (io), 78 IO78RSB2 (io), 79 IO77RSB2 (io), 80 IO76RSB2 (io), 82 IO75RSB2 (io), 83 IO74RSB2 (io), 84 IO73RSB2 (io), 85 IO72RSB2 (io), 86 IO71RSB2 (io), 87 IO70RSB2 (io), 90 IO69RSB2 (io), 91 IO68RSB2 (io), 92 IO67RSB2 (io), 93 IO66RSB2 (io), 94 IO65RSB2 (io), 95 IO64RSB2 (io), 96 GDC2/IO63RSB2 (io), 98 GDB2/IO62RSB2 (io), 99 GDA2/IO61RSB2 (io)
part D pins: 2 GAA2/IO118UDB3 (io), 3 IO118VDB3 (io), 4 GAB2/IO117UDB3 (io), 5 IO117VDB3 (io), 6 GAC2/IO116UDB3 (io), 7 IO116VDB3 (io), 8 IO115UDB3 (io), 9 IO115VDB3 (io), 10 IO114UDB3 (io), 11 IO114VDB3 (io), 12 IO113PDB3 (io), 13 IO113NDB3 (io), 14 IO112PDB3 (io), 15 IO112NDB3 (io), 19 IO111PDB3 (io), 20 IO111NDB3 (io), 21 GFC1/IO110PDB3 (io), 22 GFC0/IO110NDB3 (io), 23 GFB1/IO109PDB3 (io), 24 GFB0/IO109NDB3 (io), 26 GFA0/IO108NPB3 (io), 28 GFA1/IO108PPB3 (io), 30 GFA2/IO107PDB3 (io), 31 IO107NDB3 (io), 32 GFB2/IO106PDB3 (io), 33 IO106NDB3 (io), 34 GFC2/IO105PDB3 (io), 35 IO105NDB3 (io), 37 IO104PDB3 (io), 38 IO104NDB3 (io), 39 IO103PSB3 (io), 42 IO101PDB3 (io), 43 IO101NDB3 (io), 44 GEC1/IO100PDB3 (io), 45 GEC0/IO100NDB3 (io), 46 GEB1/IO99PDB3 (io), 47 GEB0/IO99NDB3 (io), 48 GEA1/IO98PDB3 (io), 49 GEA0/IO98NDB3 (io)
part E pins: 101 TCK (in), 102 TDI (in), 103 TMS (in), 108 TDO (out), 109 ~{TRST} (in)
part F pins: 16 VCC (power), 18 VCCIB3 (power), 25 VCOMPLF (power), 27 VCCPLF (power), 40 VCCIB3 (power), 50 VMV3 (power), 62 VCCIB2 (power), 71 VCC (power), 72 VCCIB2 (power), 88 VCC (power), 89 VCCIB2 (power), 104 VMV2 (power), 106 VPUMP (power), 110 VJTAG (power), 123 VCCIB1 (power), 126 VCC (power), 140 VCCIB1 (power), 142 VCC (power), 154 VMV1 (power), 170 VCCIB0 (power), 171 VCC (power), 186 VCCIB0 (power), 187 VCC (power), 200 VCCIB0 (power), 208 VMV0 (power)
part G pins: 1 GND (power), 17 GND (power), 29 GND (power), 41 GND (power), 51 GNDQ (power), 52 GND (power), 65 GND (power), 81 GND (power), 97 GND (power), 100 GNDQ (power), 105 GND (power), 122 GND (power), 130 GND (power), 141 GND (power), 155 GNDQ (power), 156 GND (power), 162 GND (power), 178 GND (power), 195 GND (power), 207 GNDQ (power)
part H pins: 36 NC, 53 NC, 54 NC, 107 NC, 124 NC, 125 NC, 157 NC
part A text: BANK 0
part B text: BANK 1
part C text: BANK 2
part D text: BANK 3

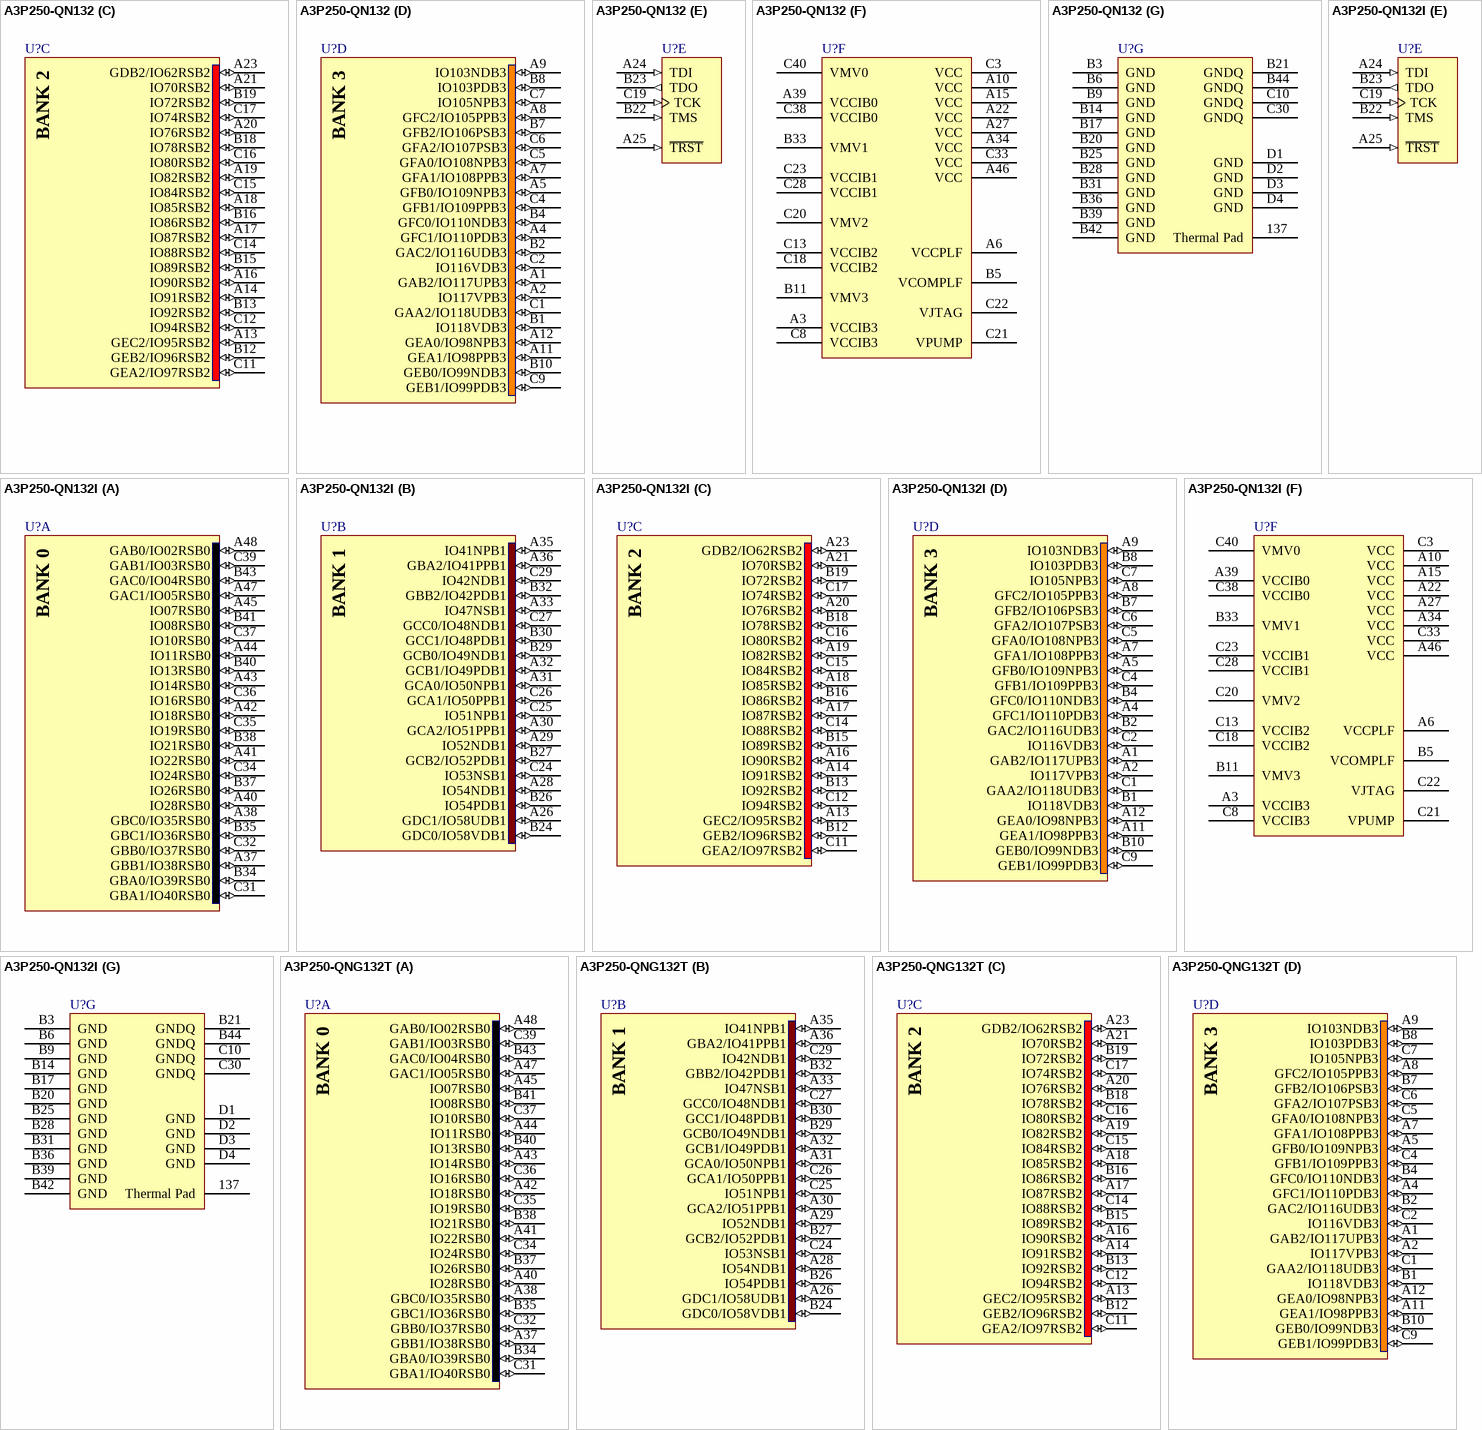
[diagram p79: symbols A3P250-QN132 to A3P250-QNG132T]

## A3P250-QN132
designator U?
ProASIC3 Flash Family FPGA, 87 User IOs, 250K System Gates, 36 Kbits RAM, 1 Kbit ProASIC3 Flash ROM, 1 PLL, 132-Pin QFN, Commercial Grade; Published: 30-Mar-2007; LatestRevisionDate: 11-Dec-2009; LatestRevisionNote: Updated to datasheet version 1.3 Oct-2009.; DatasheetVersion: v1.3, Oct-2009; PackageVersion: ver11.2, Nov-2009; PackageReference: QN132; Publisher: Altium Limited; PackageDescription: 132-Pin Quad Flat Pack No-Leads (QN132); ComponentLink1Description: ProASIC3 Datasheet; ComponentLink1URL: http://www.actel.com/documents/PA3_DS.pdf; ComponentLink2Description: Package Mechanical Drawings; ComponentLink2URL: http://www.actel.com/documents/PckgMechDrwngs.pdf; ComponentLink3Description: ProASIC3 Documents; ComponentLink3URL: http://www.actel.com/products/pa3/docs.aspx; ComponentLink4Description: Actel.com Home; ComponentLink4URL: http://www.actel.com/
footprint QN132 (QFN, 132-Leads, Body 8x8mm, Pitch 0.5mm)
signal-integrity model A3P250_QN132 (ProASIC3)
part A pins: A37 GBB1/IO38RSB0 (io), A38 GBC0/IO35RSB0 (io), A40 IO28RSB0 (io), A41 IO22RSB0 (io), A42 IO18RSB0 (io), A43 IO14RSB0 (io), A44 IO11RSB0 (io), A45 IO07RSB0 (io), A47 GAC1/IO05RSB0 (io), A48 GAB0/IO02RSB0 (io), B34 GBA0/IO39RSB0 (io), B35 GBC1/IO36RSB0 (io), B37 IO26RSB0 (io), B38 IO21RSB0 (io), B40 IO13RSB0 (io), B41 IO08RSB0 (io), B43 GAC0/IO04RSB0 (io), C31 GBA1/IO40RSB0 (io), C32 GBB0/IO37RSB0 (io), C34 IO24RSB0 (io), C35 IO19RSB0 (io), C36 IO16RSB0 (io), C37 IO10RSB0 (io), C39 GAB1/IO03RSB0 (io)
part B pins: A26 GDC1/IO58UDB1 (io), A28 IO54NDB1 (io), A29 IO52NDB1 (io), A30 GCA2/IO51PPB1 (io), A31 GCA0/IO50NPB1 (io), A32 GCB1/IO49PDB1 (io), A33 IO47NSB1 (io), A35 IO41NPB1 (io), A36 GBA2/IO41PPB1 (io), B24 GDC0/IO58VDB1 (io), B26 IO54PDB1 (io), B27 GCB2/IO52PDB1 (io), B29 GCB0/IO49NDB1 (io), B30 GCC1/IO48PDB1 (io), B32 GBB2/IO42PDB1 (io), C24 IO53NSB1 (io), C25 IO51NPB1 (io), C26 GCA1/IO50PPB1 (io), C27 GCC0/IO48NDB1 (io), C29 IO42NDB1 (io)
part C pins: A13 GEC2/IO95RSB2 (io), A14 IO91RSB2 (io), A16 IO90RSB2 (io), A17 IO87RSB2 (io), A18 IO85RSB2 (io), A19 IO82RSB2 (io), A20 IO76RSB2 (io), A21 IO70RSB2 (io), A23 GDB2/IO62RSB2 (io), B12 GEB2/IO96RSB2 (io), B13 IO92RSB2 (io), B15 IO89RSB2 (io), B16 IO86RSB2 (io), B18 IO78RSB2 (io), B19 IO72RSB2 (io), C11 GEA2/IO97RSB2 (io), C12 IO94RSB2 (io), C14 IO88RSB2 (io), C15 IO84RSB2 (io), C16 IO80RSB2 (io), C17 IO74RSB2 (io)
part D pins: A1 GAB2/IO117UPB3 (io), A2 IO117VPB3 (io), A4 GFC1/IO110PDB3 (io), A5 GFB0/IO109NPB3 (io), A7 GFA1/IO108PPB3 (io), A8 GFC2/IO105PPB3 (io), A9 IO103NDB3 (io), A11 GEA1/IO98PPB3 (io), A12 GEA0/IO98NPB3 (io), B1 IO118VDB3 (io), B2 GAC2/IO116UDB3 (io), B4 GFC0/IO110NDB3 (io), B7 GFB2/IO106PSB3 (io), B8 IO103PDB3 (io), B10 GEB0/IO99NDB3 (io), C1 GAA2/IO118UDB3 (io), C2 IO116VDB3 (io), C4 GFB1/IO109PPB3 (io), C5 GFA0/IO108NPB3 (io), C6 GFA2/IO107PSB3 (io), C7 IO105NPB3 (io), C9 GEB1/IO99PDB3 (io)
part E pins: A24 TDI (in), A25 ~{TRST} (in), B22 TMS (in), B23 TDO (out), C19 TCK (in)
part F pins: A3 VCCIB3 (power), A6 VCCPLF (power), A10 VCC (power), A15 VCC (power), A22 VCC (power), A27 VCC (power), A34 VCC (power), A39 VCCIB0 (power), A46 VCC (power), B5 VCOMPLF (power), B11 VMV3 (power), B33 VMV1 (power), C3 VCC (power), C8 VCCIB3 (power), C13 VCCIB2 (power), C18 VCCIB2 (power), C20 VMV2 (power), C21 VPUMP (power), C22 VJTAG (power), C23 VCCIB1 (power), C28 VCCIB1 (power), C33 VCC (power), C38 VCCIB0 (power), C40 VMV0 (power)
part G pins: 137 Thermal Pad (power), B3 GND (power), B6 GND (power), B9 GND (power), B14 GND (power), B17 GND (power), B20 GND (power), B21 GNDQ (power), B25 GND (power), B28 GND (power), B31 GND (power), B36 GND (power), B39 GND (power), B42 GND (power), B44 GNDQ (power), C10 GNDQ (power), C30 GNDQ (power), D1 GND (power), D2 GND (power), D3 GND (power), D4 GND (power)
part A text: BANK 0
part B text: BANK 1
part C text: BANK 2
part D text: BANK 3

## A3P250-QN132I
designator U?
ProASIC3 Flash Family FPGA, 87 User IOs, 250K System Gates, 36 Kbits RAM, 1 Kbit ProASIC3 Flash ROM, 1 PLL, 132-Pin QFN, Industrial Grade; Published: 30-Mar-2007; LatestRevisionDate: 11-Dec-2009; LatestRevisionNote: Updated to datasheet version 1.3 Oct-2009.; DatasheetVersion: v1.3, Oct-2009; PackageVersion: ver11.2, Nov-2009; PackageReference: QN132; Publisher: Altium Limited; PackageDescription: 132-Pin Quad Flat Pack No-Leads (QN132); ComponentLink1Description: ProASIC3 Datasheet; ComponentLink1URL: http://www.actel.com/documents/PA3_DS.pdf; ComponentLink2Description: Package Mechanical Drawings; ComponentLink2URL: http://www.actel.com/documents/PckgMechDrwngs.pdf; ComponentLink3Description: ProASIC3 Documents; ComponentLink3URL: http://www.actel.com/products/pa3/docs.aspx; ComponentLink4Description: Actel.com Home; ComponentLink4URL: http://www.actel.com/
footprint QN132 (QFN, 132-Leads, Body 8x8mm, Pitch 0.5mm)
signal-integrity model A3P250_QN132 (ProASIC3)
part A pins: A37 GBB1/IO38RSB0 (io), A38 GBC0/IO35RSB0 (io), A40 IO28RSB0 (io), A41 IO22RSB0 (io), A42 IO18RSB0 (io), A43 IO14RSB0 (io), A44 IO11RSB0 (io), A45 IO07RSB0 (io), A47 GAC1/IO05RSB0 (io), A48 GAB0/IO02RSB0 (io), B34 GBA0/IO39RSB0 (io), B35 GBC1/IO36RSB0 (io), B37 IO26RSB0 (io), B38 IO21RSB0 (io), B40 IO13RSB0 (io), B41 IO08RSB0 (io), B43 GAC0/IO04RSB0 (io), C31 GBA1/IO40RSB0 (io), C32 GBB0/IO37RSB0 (io), C34 IO24RSB0 (io), C35 IO19RSB0 (io), C36 IO16RSB0 (io), C37 IO10RSB0 (io), C39 GAB1/IO03RSB0 (io)
part B pins: A26 GDC1/IO58UDB1 (io), A28 IO54NDB1 (io), A29 IO52NDB1 (io), A30 GCA2/IO51PPB1 (io), A31 GCA0/IO50NPB1 (io), A32 GCB1/IO49PDB1 (io), A33 IO47NSB1 (io), A35 IO41NPB1 (io), A36 GBA2/IO41PPB1 (io), B24 GDC0/IO58VDB1 (io), B26 IO54PDB1 (io), B27 GCB2/IO52PDB1 (io), B29 GCB0/IO49NDB1 (io), B30 GCC1/IO48PDB1 (io), B32 GBB2/IO42PDB1 (io), C24 IO53NSB1 (io), C25 IO51NPB1 (io), C26 GCA1/IO50PPB1 (io), C27 GCC0/IO48NDB1 (io), C29 IO42NDB1 (io)
part C pins: A13 GEC2/IO95RSB2 (io), A14 IO91RSB2 (io), A16 IO90RSB2 (io), A17 IO87RSB2 (io), A18 IO85RSB2 (io), A19 IO82RSB2 (io), A20 IO76RSB2 (io), A21 IO70RSB2 (io), A23 GDB2/IO62RSB2 (io), B12 GEB2/IO96RSB2 (io), B13 IO92RSB2 (io), B15 IO89RSB2 (io), B16 IO86RSB2 (io), B18 IO78RSB2 (io), B19 IO72RSB2 (io), C11 GEA2/IO97RSB2 (io), C12 IO94RSB2 (io), C14 IO88RSB2 (io), C15 IO84RSB2 (io), C16 IO80RSB2 (io), C17 IO74RSB2 (io)
part D pins: A1 GAB2/IO117UPB3 (io), A2 IO117VPB3 (io), A4 GFC1/IO110PDB3 (io), A5 GFB0/IO109NPB3 (io), A7 GFA1/IO108PPB3 (io), A8 GFC2/IO105PPB3 (io), A9 IO103NDB3 (io), A11 GEA1/IO98PPB3 (io), A12 GEA0/IO98NPB3 (io), B1 IO118VDB3 (io), B2 GAC2/IO116UDB3 (io), B4 GFC0/IO110NDB3 (io), B7 GFB2/IO106PSB3 (io), B8 IO103PDB3 (io), B10 GEB0/IO99NDB3 (io), C1 GAA2/IO118UDB3 (io), C2 IO116VDB3 (io), C4 GFB1/IO109PPB3 (io), C5 GFA0/IO108NPB3 (io), C6 GFA2/IO107PSB3 (io), C7 IO105NPB3 (io), C9 GEB1/IO99PDB3 (io)
part E pins: A24 TDI (in), A25 ~{TRST} (in), B22 TMS (in), B23 TDO (out), C19 TCK (in)
part F pins: A3 VCCIB3 (power), A6 VCCPLF (power), A10 VCC (power), A15 VCC (power), A22 VCC (power), A27 VCC (power), A34 VCC (power), A39 VCCIB0 (power), A46 VCC (power), B5 VCOMPLF (power), B11 VMV3 (power), B33 VMV1 (power), C3 VCC (power), C8 VCCIB3 (power), C13 VCCIB2 (power), C18 VCCIB2 (power), C20 VMV2 (power), C21 VPUMP (power), C22 VJTAG (power), C23 VCCIB1 (power), C28 VCCIB1 (power), C33 VCC (power), C38 VCCIB0 (power), C40 VMV0 (power)
part G pins: 137 Thermal Pad (power), B3 GND (power), B6 GND (power), B9 GND (power), B14 GND (power), B17 GND (power), B20 GND (power), B21 GNDQ (power), B25 GND (power), B28 GND (power), B31 GND (power), B36 GND (power), B39 GND (power), B42 GND (power), B44 GNDQ (power), C10 GNDQ (power), C30 GNDQ (power), D1 GND (power), D2 GND (power), D3 GND (power), D4 GND (power)
part A text: BANK 0
part B text: BANK 1
part C text: BANK 2
part D text: BANK 3

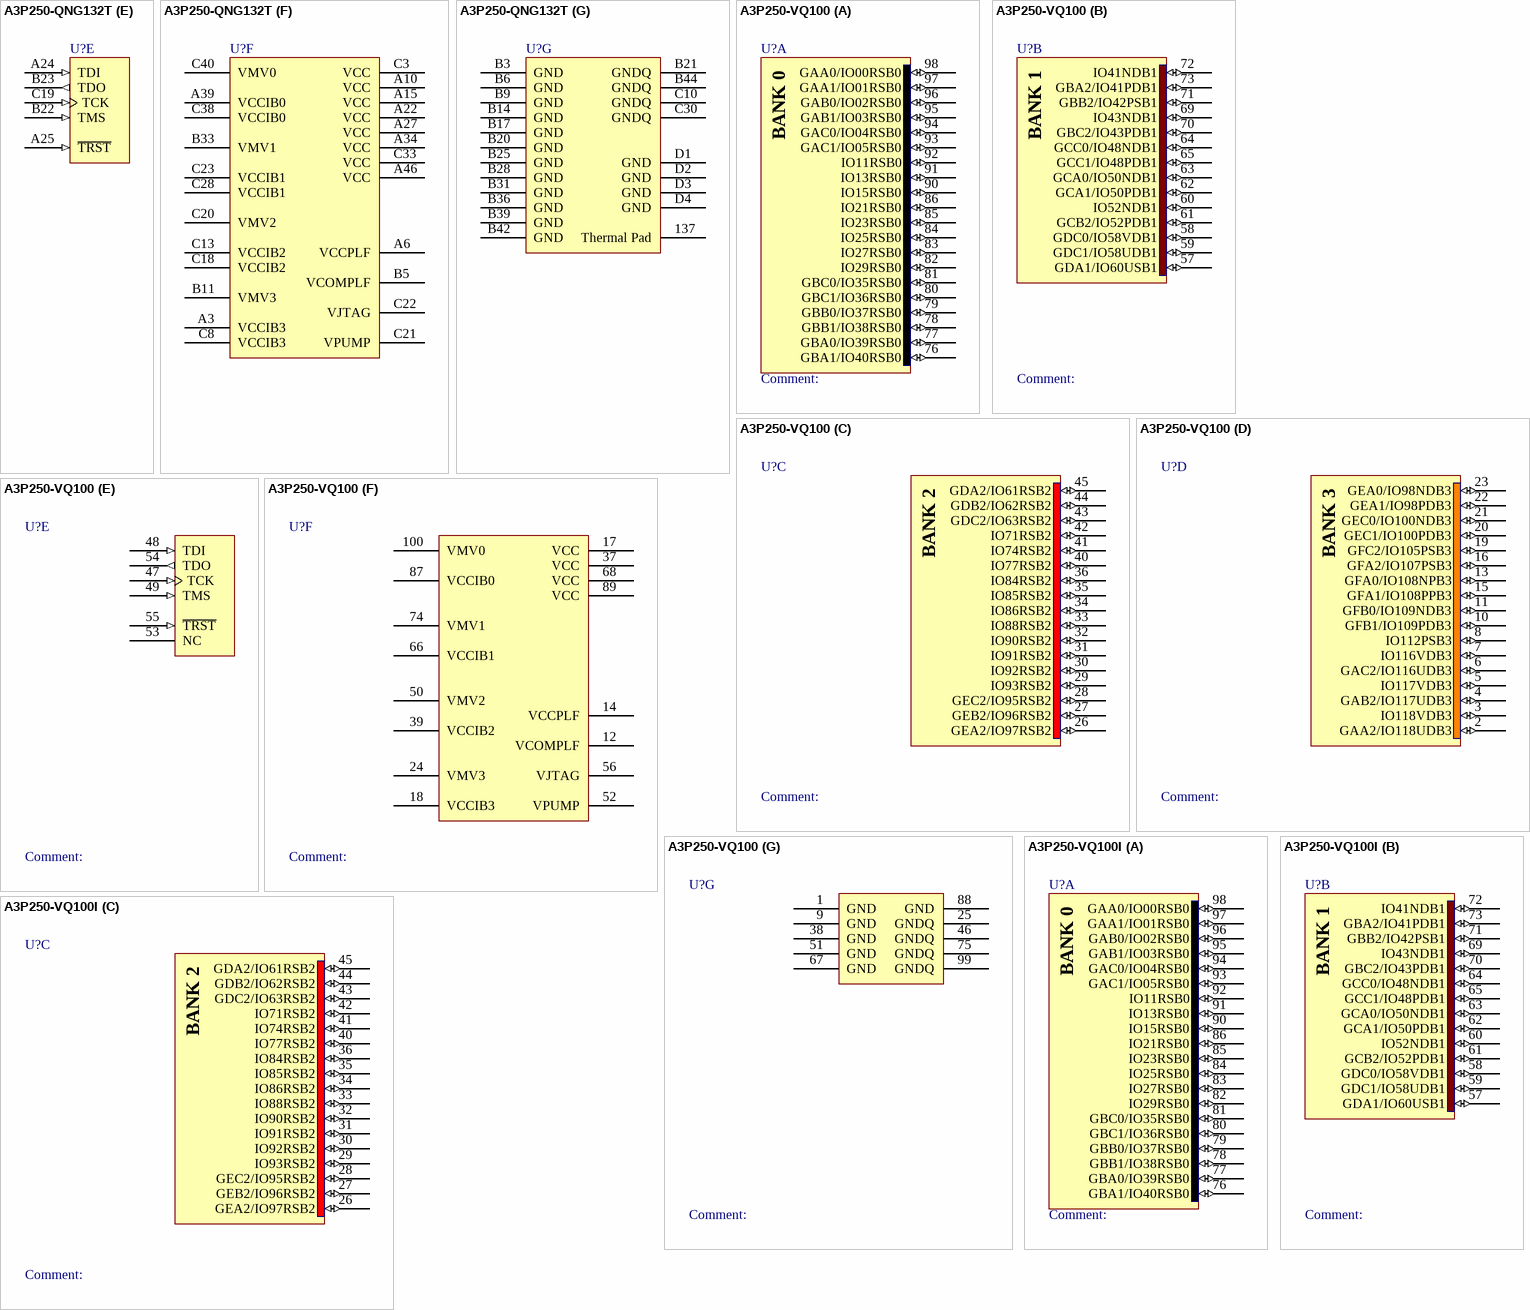
[diagram p80: symbols A3P250-QNG132T to A3P250-VQ100I]

## A3P250-QNG132T
designator U?
ProASIC3 Flash Family FPGA, 87 User IOs, 250K System Gates, 36 Kbits RAM, 1 Kbit ProASIC3 Flash ROM, 1 PLL, 132-Pin QFN, Automotive Grade, Pb-Free; Published: 11-Dec-2009; DatasheetVersion: v1.1, Dec-2009; PackageVersion: ver11.2, Nov-2009; PackageReference: QN132; Publisher: Altium Limited; PackageDescription: 132-Pin Quad Flat Pack No-Leads (QN132); ComponentLink1Description: ProASIC3 Datasheet; ComponentLink1URL: http://www.actel.com/documents/PA3_DS.pdf; ComponentLink2Description: Package Mechanical Drawings; ComponentLink2URL: http://www.actel.com/documents/PckgMechDrwngs.pdf; ComponentLink3Description: ProASIC3 Documents; ComponentLink3URL: http://www.actel.com/products/pa3/docs.aspx; ComponentLink4Description: Actel.com Home; ComponentLink4URL: http://www.actel.com/
footprint QN132 (QFN, 132-Leads, Body 8x8mm, Pitch 0.5mm)
signal-integrity model A3P250_QN132 (ProASIC3)
part A pins: A37 GBB1/IO38RSB0 (io), A38 GBC0/IO35RSB0 (io), A40 IO28RSB0 (io), A41 IO22RSB0 (io), A42 IO18RSB0 (io), A43 IO14RSB0 (io), A44 IO11RSB0 (io), A45 IO07RSB0 (io), A47 GAC1/IO05RSB0 (io), A48 GAB0/IO02RSB0 (io), B34 GBA0/IO39RSB0 (io), B35 GBC1/IO36RSB0 (io), B37 IO26RSB0 (io), B38 IO21RSB0 (io), B40 IO13RSB0 (io), B41 IO08RSB0 (io), B43 GAC0/IO04RSB0 (io), C31 GBA1/IO40RSB0 (io), C32 GBB0/IO37RSB0 (io), C34 IO24RSB0 (io), C35 IO19RSB0 (io), C36 IO16RSB0 (io), C37 IO10RSB0 (io), C39 GAB1/IO03RSB0 (io)
part B pins: A26 GDC1/IO58UDB1 (io), A28 IO54NDB1 (io), A29 IO52NDB1 (io), A30 GCA2/IO51PPB1 (io), A31 GCA0/IO50NPB1 (io), A32 GCB1/IO49PDB1 (io), A33 IO47NSB1 (io), A35 IO41NPB1 (io), A36 GBA2/IO41PPB1 (io), B24 GDC0/IO58VDB1 (io), B26 IO54PDB1 (io), B27 GCB2/IO52PDB1 (io), B29 GCB0/IO49NDB1 (io), B30 GCC1/IO48PDB1 (io), B32 GBB2/IO42PDB1 (io), C24 IO53NSB1 (io), C25 IO51NPB1 (io), C26 GCA1/IO50PPB1 (io), C27 GCC0/IO48NDB1 (io), C29 IO42NDB1 (io)
part C pins: A13 GEC2/IO95RSB2 (io), A14 IO91RSB2 (io), A16 IO90RSB2 (io), A17 IO87RSB2 (io), A18 IO85RSB2 (io), A19 IO82RSB2 (io), A20 IO76RSB2 (io), A21 IO70RSB2 (io), A23 GDB2/IO62RSB2 (io), B12 GEB2/IO96RSB2 (io), B13 IO92RSB2 (io), B15 IO89RSB2 (io), B16 IO86RSB2 (io), B18 IO78RSB2 (io), B19 IO72RSB2 (io), C11 GEA2/IO97RSB2 (io), C12 IO94RSB2 (io), C14 IO88RSB2 (io), C15 IO84RSB2 (io), C16 IO80RSB2 (io), C17 IO74RSB2 (io)
part D pins: A1 GAB2/IO117UPB3 (io), A2 IO117VPB3 (io), A4 GFC1/IO110PDB3 (io), A5 GFB0/IO109NPB3 (io), A7 GFA1/IO108PPB3 (io), A8 GFC2/IO105PPB3 (io), A9 IO103NDB3 (io), A11 GEA1/IO98PPB3 (io), A12 GEA0/IO98NPB3 (io), B1 IO118VDB3 (io), B2 GAC2/IO116UDB3 (io), B4 GFC0/IO110NDB3 (io), B7 GFB2/IO106PSB3 (io), B8 IO103PDB3 (io), B10 GEB0/IO99NDB3 (io), C1 GAA2/IO118UDB3 (io), C2 IO116VDB3 (io), C4 GFB1/IO109PPB3 (io), C5 GFA0/IO108NPB3 (io), C6 GFA2/IO107PSB3 (io), C7 IO105NPB3 (io), C9 GEB1/IO99PDB3 (io)
part E pins: A24 TDI (in), A25 ~{TRST} (in), B22 TMS (in), B23 TDO (out), C19 TCK (in)
part F pins: A3 VCCIB3 (power), A6 VCCPLF (power), A10 VCC (power), A15 VCC (power), A22 VCC (power), A27 VCC (power), A34 VCC (power), A39 VCCIB0 (power), A46 VCC (power), B5 VCOMPLF (power), B11 VMV3 (power), B33 VMV1 (power), C3 VCC (power), C8 VCCIB3 (power), C13 VCCIB2 (power), C18 VCCIB2 (power), C20 VMV2 (power), C21 VPUMP (power), C22 VJTAG (power), C23 VCCIB1 (power), C28 VCCIB1 (power), C33 VCC (power), C38 VCCIB0 (power), C40 VMV0 (power)
part G pins: 137 Thermal Pad (power), B3 GND (power), B6 GND (power), B9 GND (power), B14 GND (power), B17 GND (power), B20 GND (power), B21 GNDQ (power), B25 GND (power), B28 GND (power), B31 GND (power), B36 GND (power), B39 GND (power), B42 GND (power), B44 GNDQ (power), C10 GNDQ (power), C30 GNDQ (power), D1 GND (power), D2 GND (power), D3 GND (power), D4 GND (power)
part A text: BANK 0
part B text: BANK 1
part C text: BANK 2
part D text: BANK 3

## A3P250-VQ100
designator U?
ProASIC3 Flash Family FPGA, 68 User IOs, 250K System Gates, 36 Kbits RAM, 1 Kbit Flash ROM, 1 PLL, 100-Pin VQFP, Commercial Grade; Published: 4-Mar-2005; LatestRevisionDate: 11-Dec-2009; LatestRevisionNote: Updated to datasheet version 1.3 Oct-2009.; DatasheetVersion: v1.3, Oct-2009; PackageVersion: ver11.2, Nov-2009; PackageReference: VQ100; Publisher: Altium Limited; PackageDescription: 100-Pin Plastic Quad Flat Pack (VQ100); Code_JEDEC: MS-026-AED; ComponentLink1Description: ProASIC3 Datasheet; ComponentLink1URL: http://www.actel.com/documents/PA3_DS.pdf; ComponentLink2Description: Package Mechanical Drawings; ComponentLink2URL: http://www.actel.com/documents/PckgMechDrwngs.pdf; ComponentLink3Description: ProASIC3 Documents; ComponentLink3URL: http://www.actel.com/products/pa3/docs.aspx; ComponentLink4Description: Actel.com Home; ComponentLink4URL: http://www.actel.com/
footprint VQ100_N (Thin QFP, 100-Leads, Body 14x14mm, Pitch 0.5mm, IPC Medium Density)
footprint VQ100_L (Thin QFP, 100-Leads, Body 14x14mm, Pitch 0.5mm, IPC High Density)
footprint VQ100_M (Thin QFP, 100-Leads, Body 14x14mm, Pitch 0.5mm, IPC Low Density)
signal-integrity model A3P250_VQ100 (ProASIC3)
part A pins: 76 GBA1/IO40RSB0 (io), 77 GBA0/IO39RSB0 (io), 78 GBB1/IO38RSB0 (io), 79 GBB0/IO37RSB0 (io), 80 GBC1/IO36RSB0 (io), 81 GBC0/IO35RSB0 (io), 82 IO29RSB0 (io), 83 IO27RSB0 (io), 84 IO25RSB0 (io), 85 IO23RSB0 (io), 86 IO21RSB0 (io), 90 IO15RSB0 (io), 91 IO13RSB0 (io), 92 IO11RSB0 (io), 93 GAC1/IO05RSB0 (io), 94 GAC0/IO04RSB0 (io), 95 GAB1/IO03RSB0 (io), 96 GAB0/IO02RSB0 (io), 97 GAA1/IO01RSB0 (io), 98 GAA0/IO00RSB0 (io)
part B pins: 57 GDA1/IO60USB1 (io), 58 GDC0/IO58VDB1 (io), 59 GDC1/IO58UDB1 (io), 60 IO52NDB1 (io), 61 GCB2/IO52PDB1 (io), 62 GCA1/IO50PDB1 (io), 63 GCA0/IO50NDB1 (io), 64 GCC0/IO48NDB1 (io), 65 GCC1/IO48PDB1 (io), 69 IO43NDB1 (io), 70 GBC2/IO43PDB1 (io), 71 GBB2/IO42PSB1 (io), 72 IO41NDB1 (io), 73 GBA2/IO41PDB1 (io)
part C pins: 26 GEA2/IO97RSB2 (io), 27 GEB2/IO96RSB2 (io), 28 GEC2/IO95RSB2 (io), 29 IO93RSB2 (io), 30 IO92RSB2 (io), 31 IO91RSB2 (io), 32 IO90RSB2 (io), 33 IO88RSB2 (io), 34 IO86RSB2 (io), 35 IO85RSB2 (io), 36 IO84RSB2 (io), 40 IO77RSB2 (io), 41 IO74RSB2 (io), 42 IO71RSB2 (io), 43 GDC2/IO63RSB2 (io), 44 GDB2/IO62RSB2 (io), 45 GDA2/IO61RSB2 (io)
part D pins: 2 GAA2/IO118UDB3 (io), 3 IO118VDB3 (io), 4 GAB2/IO117UDB3 (io), 5 IO117VDB3 (io), 6 GAC2/IO116UDB3 (io), 7 IO116VDB3 (io), 8 IO112PSB3 (io), 10 GFB1/IO109PDB3 (io), 11 GFB0/IO109NDB3 (io), 13 GFA0/IO108NPB3 (io), 15 GFA1/IO108PPB3 (io), 16 GFA2/IO107PSB3 (io), 19 GFC2/IO105PSB3 (io), 20 GEC1/IO100PDB3 (io), 21 GEC0/IO100NDB3 (io), 22 GEA1/IO98PDB3 (io), 23 GEA0/IO98NDB3 (io)
part E pins: 47 TCK (in), 48 TDI (in), 49 TMS (in), 53 NC, 54 TDO (out), 55 ~{TRST} (in)
part F pins: 12 VCOMPLF (power), 14 VCCPLF (power), 17 VCC (power), 18 VCCIB3 (power), 24 VMV3 (power), 37 VCC (power), 39 VCCIB2 (power), 50 VMV2 (power), 52 VPUMP (power), 56 VJTAG (power), 66 VCCIB1 (power), 68 VCC (power), 74 VMV1 (power), 87 VCCIB0 (power), 89 VCC (power), 100 VMV0 (power)
part G pins: 1 GND (power), 9 GND (power), 25 GNDQ (power), 38 GND (power), 46 GNDQ (power), 51 GND (power), 67 GND (power), 75 GNDQ (power), 88 GND (power), 99 GNDQ (power)
part A text: BANK 0
part B text: BANK 1
part C text: BANK 2
part D text: BANK 3

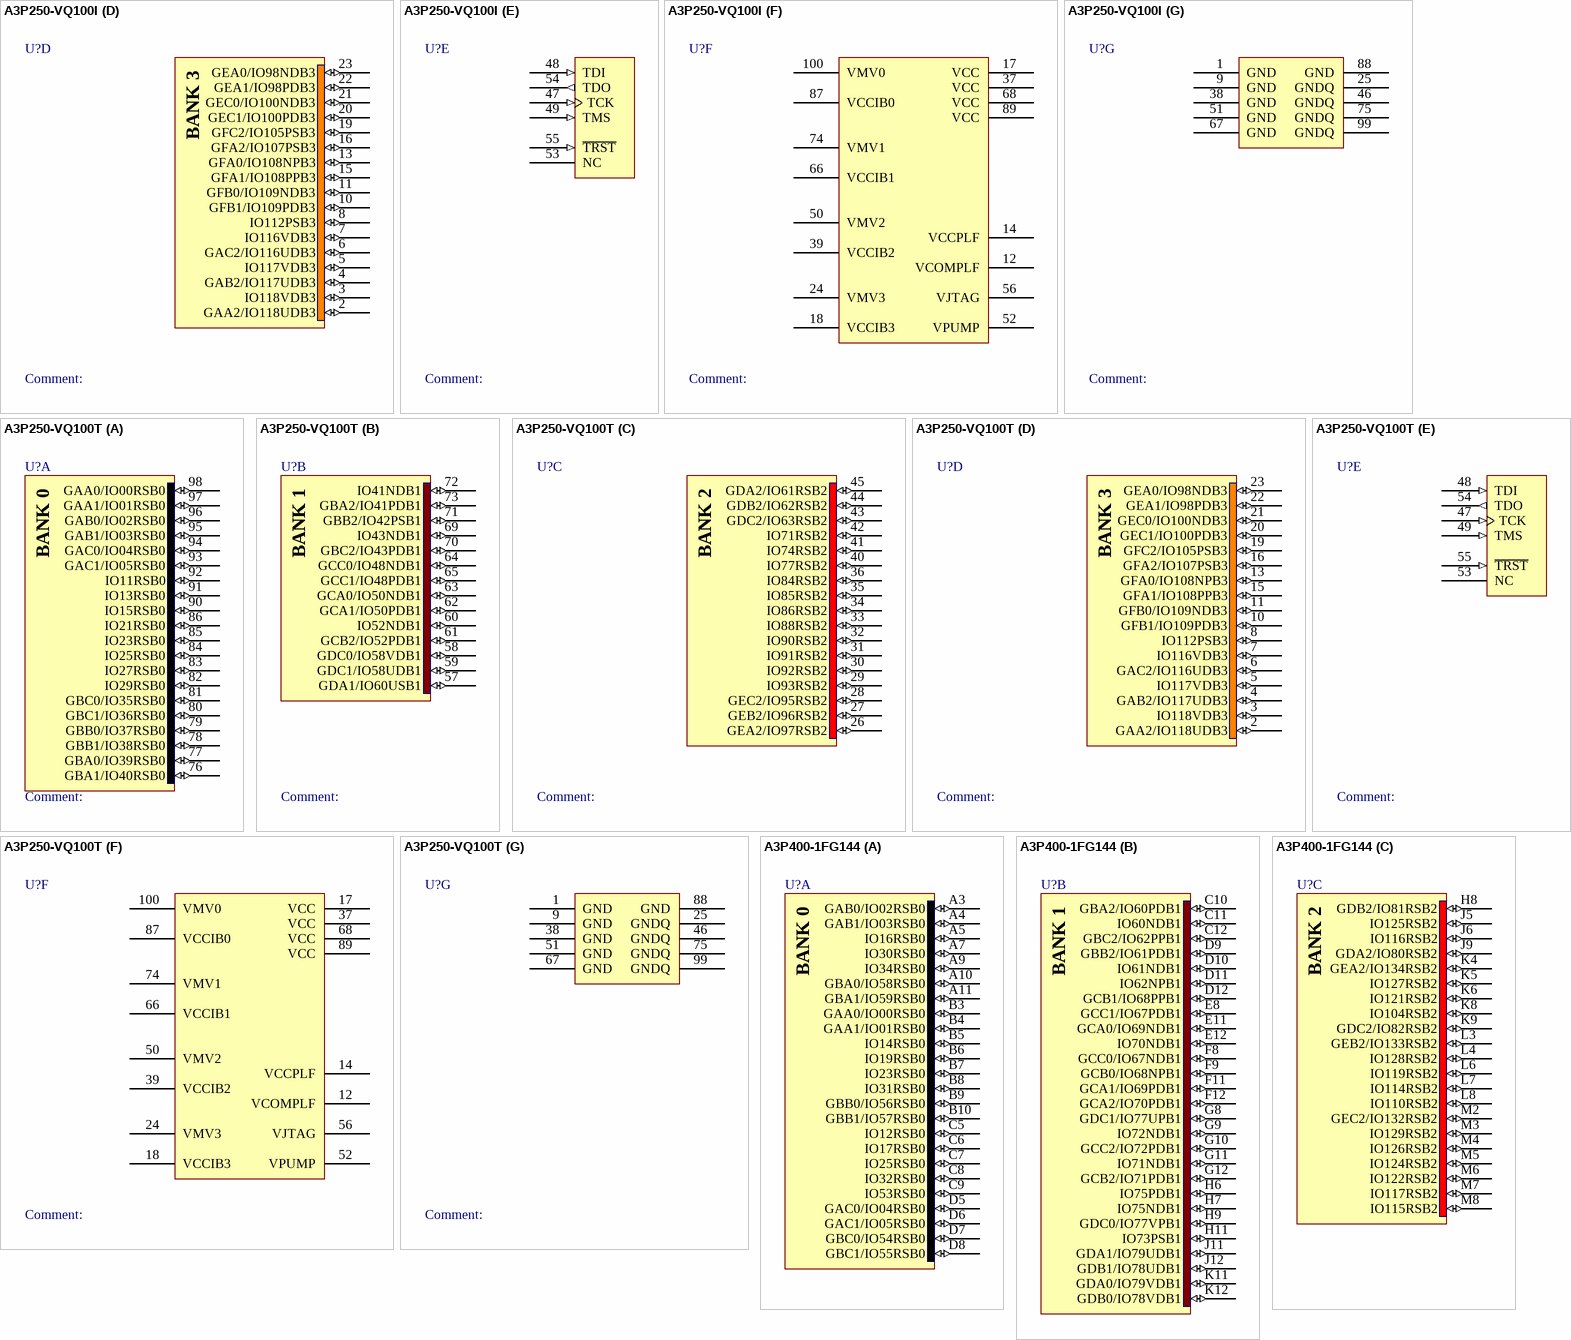
[diagram p81: symbols A3P250-VQ100I to A3P400-1FG144]

## A3P250-VQ100I
designator U?
ProASIC3 Flash Family FPGA, 68 User IOs, 250K System Gates, 36 Kbits RAM, 1 Kbit Flash ROM, 1 PLL, 100-Pin VQFP, Industrial Grade; Published: 4-Mar-2005; LatestRevisionDate: 11-Dec-2009; LatestRevisionNote: Updated to datasheet version 1.3 Oct-2009.; DatasheetVersion: v1.3, Oct-2009; PackageVersion: ver11.2, Nov-2009; PackageReference: VQ100; Publisher: Altium Limited; PackageDescription: 100-Pin Plastic Quad Flat Pack (VQ100); Code_JEDEC: MS-026-AED; ComponentLink1Description: ProASIC3 Datasheet; ComponentLink1URL: http://www.actel.com/documents/PA3_DS.pdf; ComponentLink2Description: Package Mechanical Drawings; ComponentLink2URL: http://www.actel.com/documents/PckgMechDrwngs.pdf; ComponentLink3Description: ProASIC3 Documents; ComponentLink3URL: http://www.actel.com/products/pa3/docs.aspx; ComponentLink4Description: Actel.com Home; ComponentLink4URL: http://www.actel.com/
footprint VQ100_N (Thin QFP, 100-Leads, Body 14x14mm, Pitch 0.5mm, IPC Medium Density)
footprint VQ100_L (Thin QFP, 100-Leads, Body 14x14mm, Pitch 0.5mm, IPC High Density)
footprint VQ100_M (Thin QFP, 100-Leads, Body 14x14mm, Pitch 0.5mm, IPC Low Density)
signal-integrity model A3P250_VQ100 (ProASIC3)
part A pins: 76 GBA1/IO40RSB0 (io), 77 GBA0/IO39RSB0 (io), 78 GBB1/IO38RSB0 (io), 79 GBB0/IO37RSB0 (io), 80 GBC1/IO36RSB0 (io), 81 GBC0/IO35RSB0 (io), 82 IO29RSB0 (io), 83 IO27RSB0 (io), 84 IO25RSB0 (io), 85 IO23RSB0 (io), 86 IO21RSB0 (io), 90 IO15RSB0 (io), 91 IO13RSB0 (io), 92 IO11RSB0 (io), 93 GAC1/IO05RSB0 (io), 94 GAC0/IO04RSB0 (io), 95 GAB1/IO03RSB0 (io), 96 GAB0/IO02RSB0 (io), 97 GAA1/IO01RSB0 (io), 98 GAA0/IO00RSB0 (io)
part B pins: 57 GDA1/IO60USB1 (io), 58 GDC0/IO58VDB1 (io), 59 GDC1/IO58UDB1 (io), 60 IO52NDB1 (io), 61 GCB2/IO52PDB1 (io), 62 GCA1/IO50PDB1 (io), 63 GCA0/IO50NDB1 (io), 64 GCC0/IO48NDB1 (io), 65 GCC1/IO48PDB1 (io), 69 IO43NDB1 (io), 70 GBC2/IO43PDB1 (io), 71 GBB2/IO42PSB1 (io), 72 IO41NDB1 (io), 73 GBA2/IO41PDB1 (io)
part C pins: 26 GEA2/IO97RSB2 (io), 27 GEB2/IO96RSB2 (io), 28 GEC2/IO95RSB2 (io), 29 IO93RSB2 (io), 30 IO92RSB2 (io), 31 IO91RSB2 (io), 32 IO90RSB2 (io), 33 IO88RSB2 (io), 34 IO86RSB2 (io), 35 IO85RSB2 (io), 36 IO84RSB2 (io), 40 IO77RSB2 (io), 41 IO74RSB2 (io), 42 IO71RSB2 (io), 43 GDC2/IO63RSB2 (io), 44 GDB2/IO62RSB2 (io), 45 GDA2/IO61RSB2 (io)
part D pins: 2 GAA2/IO118UDB3 (io), 3 IO118VDB3 (io), 4 GAB2/IO117UDB3 (io), 5 IO117VDB3 (io), 6 GAC2/IO116UDB3 (io), 7 IO116VDB3 (io), 8 IO112PSB3 (io), 10 GFB1/IO109PDB3 (io), 11 GFB0/IO109NDB3 (io), 13 GFA0/IO108NPB3 (io), 15 GFA1/IO108PPB3 (io), 16 GFA2/IO107PSB3 (io), 19 GFC2/IO105PSB3 (io), 20 GEC1/IO100PDB3 (io), 21 GEC0/IO100NDB3 (io), 22 GEA1/IO98PDB3 (io), 23 GEA0/IO98NDB3 (io)
part E pins: 47 TCK (in), 48 TDI (in), 49 TMS (in), 53 NC, 54 TDO (out), 55 ~{TRST} (in)
part F pins: 12 VCOMPLF (power), 14 VCCPLF (power), 17 VCC (power), 18 VCCIB3 (power), 24 VMV3 (power), 37 VCC (power), 39 VCCIB2 (power), 50 VMV2 (power), 52 VPUMP (power), 56 VJTAG (power), 66 VCCIB1 (power), 68 VCC (power), 74 VMV1 (power), 87 VCCIB0 (power), 89 VCC (power), 100 VMV0 (power)
part G pins: 1 GND (power), 9 GND (power), 25 GNDQ (power), 38 GND (power), 46 GNDQ (power), 51 GND (power), 67 GND (power), 75 GNDQ (power), 88 GND (power), 99 GNDQ (power)
part A text: BANK 0
part B text: BANK 1
part C text: BANK 2
part D text: BANK 3

## A3P250-VQ100T
designator U?
ProASIC3 Flash Family FPGA, 68 User IOs, 250K System Gates, 36 Kbits RAM, 1 Kbit Flash ROM, 1 PLL, 100-Pin VQFP, Automotive Grade; Published: 11-Dec-2009; DatasheetVersion: v1.1, Dec-2009; PackageVersion: ver11.2, Nov-2009; PackageReference: VQ100; Publisher: Altium Limited; PackageDescription: 100-Pin Plastic Quad Flat Pack (VQ100); Code_JEDEC: MS-026-AED; ComponentLink1Description: ProASIC3 Datasheet; ComponentLink1URL: http://www.actel.com/documents/PA3_DS.pdf; ComponentLink2Description: Package Mechanical Drawings; ComponentLink2URL: http://www.actel.com/documents/PckgMechDrwngs.pdf; ComponentLink3Description: ProASIC3 Documents; ComponentLink3URL: http://www.actel.com/products/pa3/docs.aspx; ComponentLink4Description: Actel.com Home; ComponentLink4URL: http://www.actel.com/
footprint VQ100_N (Thin QFP, 100-Leads, Body 14x14mm, Pitch 0.5mm, IPC Medium Density)
footprint VQ100_L (Thin QFP, 100-Leads, Body 14x14mm, Pitch 0.5mm, IPC High Density)
footprint VQ100_M (Thin QFP, 100-Leads, Body 14x14mm, Pitch 0.5mm, IPC Low Density)
signal-integrity model A3P250_VQ100 (ProASIC3)
part A pins: 76 GBA1/IO40RSB0 (io), 77 GBA0/IO39RSB0 (io), 78 GBB1/IO38RSB0 (io), 79 GBB0/IO37RSB0 (io), 80 GBC1/IO36RSB0 (io), 81 GBC0/IO35RSB0 (io), 82 IO29RSB0 (io), 83 IO27RSB0 (io), 84 IO25RSB0 (io), 85 IO23RSB0 (io), 86 IO21RSB0 (io), 90 IO15RSB0 (io), 91 IO13RSB0 (io), 92 IO11RSB0 (io), 93 GAC1/IO05RSB0 (io), 94 GAC0/IO04RSB0 (io), 95 GAB1/IO03RSB0 (io), 96 GAB0/IO02RSB0 (io), 97 GAA1/IO01RSB0 (io), 98 GAA0/IO00RSB0 (io)
part B pins: 57 GDA1/IO60USB1 (io), 58 GDC0/IO58VDB1 (io), 59 GDC1/IO58UDB1 (io), 60 IO52NDB1 (io), 61 GCB2/IO52PDB1 (io), 62 GCA1/IO50PDB1 (io), 63 GCA0/IO50NDB1 (io), 64 GCC0/IO48NDB1 (io), 65 GCC1/IO48PDB1 (io), 69 IO43NDB1 (io), 70 GBC2/IO43PDB1 (io), 71 GBB2/IO42PSB1 (io), 72 IO41NDB1 (io), 73 GBA2/IO41PDB1 (io)
part C pins: 26 GEA2/IO97RSB2 (io), 27 GEB2/IO96RSB2 (io), 28 GEC2/IO95RSB2 (io), 29 IO93RSB2 (io), 30 IO92RSB2 (io), 31 IO91RSB2 (io), 32 IO90RSB2 (io), 33 IO88RSB2 (io), 34 IO86RSB2 (io), 35 IO85RSB2 (io), 36 IO84RSB2 (io), 40 IO77RSB2 (io), 41 IO74RSB2 (io), 42 IO71RSB2 (io), 43 GDC2/IO63RSB2 (io), 44 GDB2/IO62RSB2 (io), 45 GDA2/IO61RSB2 (io)
part D pins: 2 GAA2/IO118UDB3 (io), 3 IO118VDB3 (io), 4 GAB2/IO117UDB3 (io), 5 IO117VDB3 (io), 6 GAC2/IO116UDB3 (io), 7 IO116VDB3 (io), 8 IO112PSB3 (io), 10 GFB1/IO109PDB3 (io), 11 GFB0/IO109NDB3 (io), 13 GFA0/IO108NPB3 (io), 15 GFA1/IO108PPB3 (io), 16 GFA2/IO107PSB3 (io), 19 GFC2/IO105PSB3 (io), 20 GEC1/IO100PDB3 (io), 21 GEC0/IO100NDB3 (io), 22 GEA1/IO98PDB3 (io), 23 GEA0/IO98NDB3 (io)
part E pins: 47 TCK (in), 48 TDI (in), 49 TMS (in), 53 NC, 54 TDO (out), 55 ~{TRST} (in)
part F pins: 12 VCOMPLF (power), 14 VCCPLF (power), 17 VCC (power), 18 VCCIB3 (power), 24 VMV3 (power), 37 VCC (power), 39 VCCIB2 (power), 50 VMV2 (power), 52 VPUMP (power), 56 VJTAG (power), 66 VCCIB1 (power), 68 VCC (power), 74 VMV1 (power), 87 VCCIB0 (power), 89 VCC (power), 100 VMV0 (power)
part G pins: 1 GND (power), 9 GND (power), 25 GNDQ (power), 38 GND (power), 46 GNDQ (power), 51 GND (power), 67 GND (power), 75 GNDQ (power), 88 GND (power), 99 GNDQ (power)
part A text: BANK 0
part B text: BANK 1
part C text: BANK 2
part D text: BANK 3

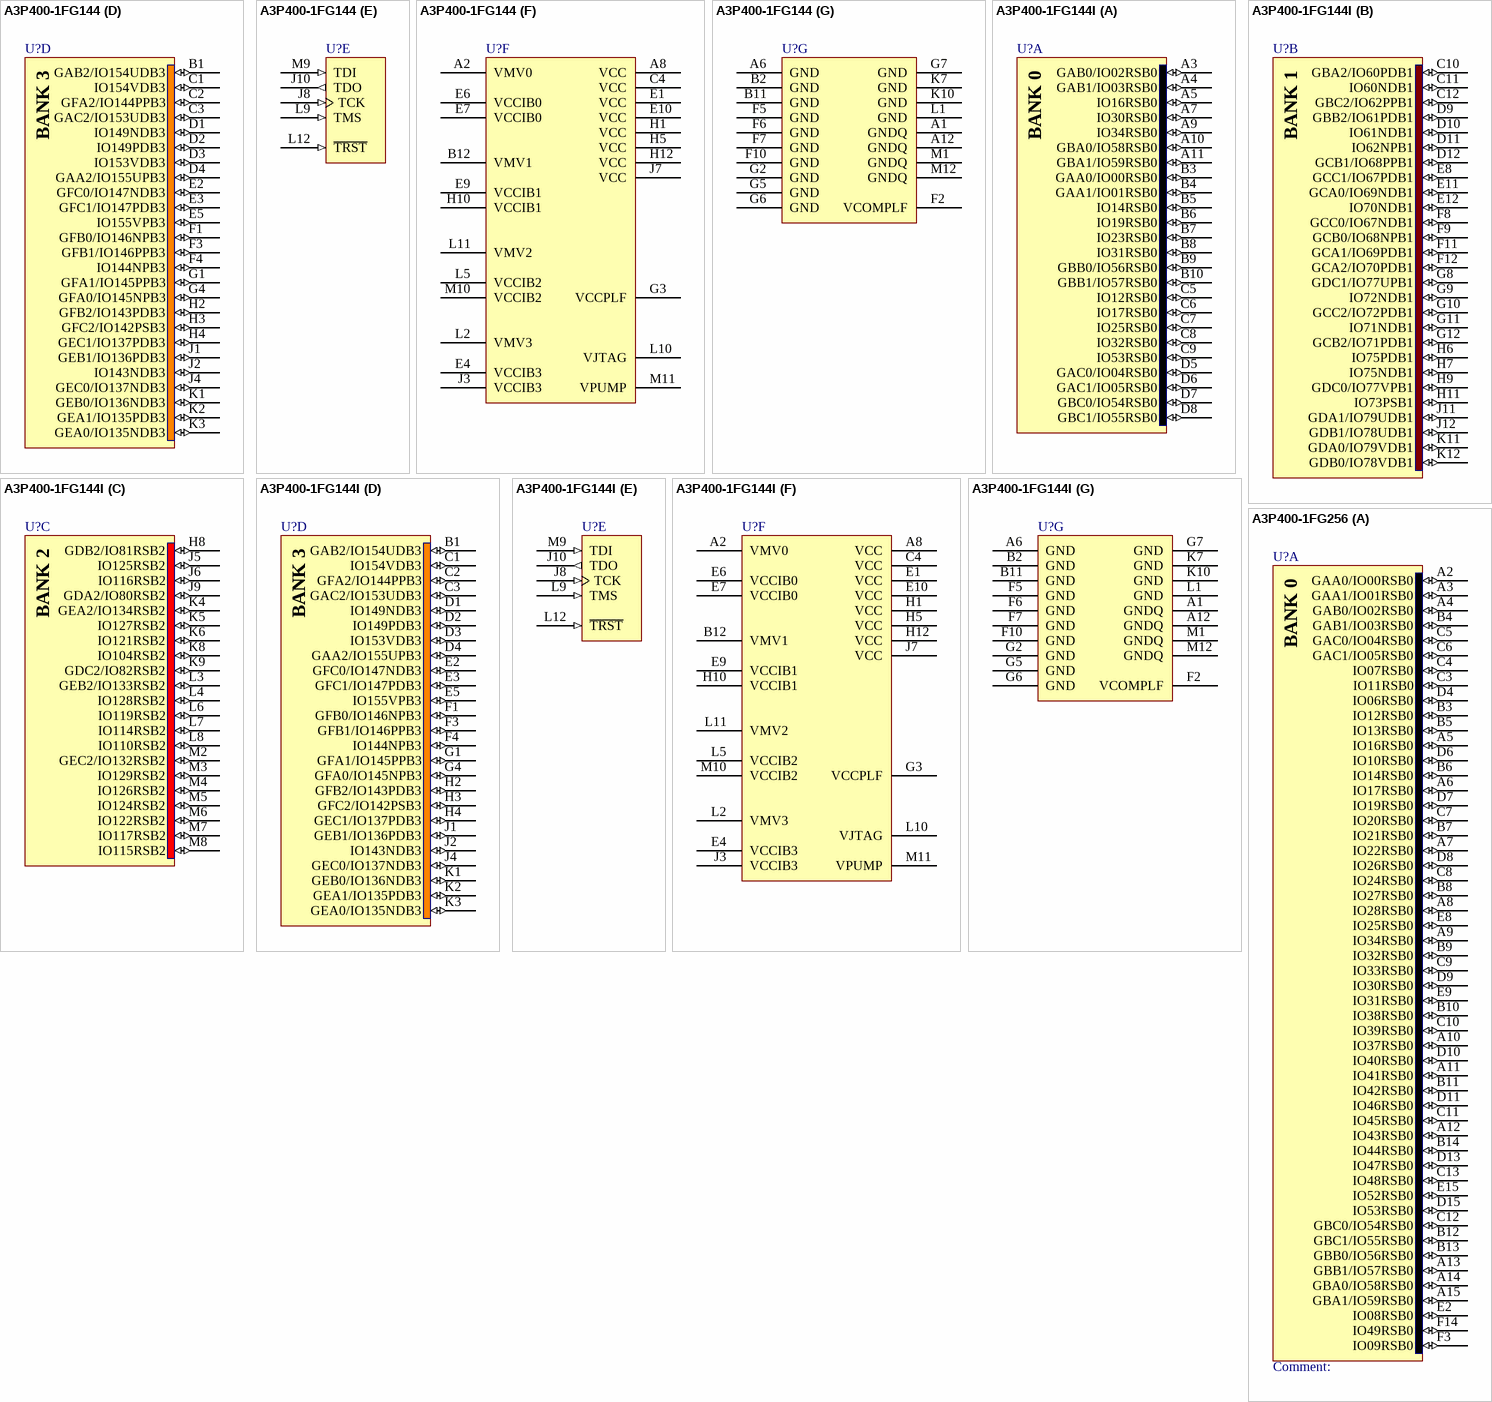
[diagram p82: symbols A3P400-1FG144 to A3P400-1FG256]

## A3P400-1FG144
designator U?
ProASIC3 Flash Family FPGA, 97 User IOs, 400K System Gates, 54 Kbits RAM, 1 Kbit Flash ROM, 1 PLL, 144-Ball FBGA, Commercial Grade; Published: 13-Apr-2006; LatestRevisionDate: 11-Dec-2009; LatestRevisionNote: Updated to datasheet version 1.3 Oct-2009.; DatasheetVersion: v1.3, Oct-2009; PackageVersion: ver11.2, Nov-2009; PackageReference: FG144; Publisher: Altium Limited; PackageDescription: 144-Ball Fine Pitch Plastic Ball Grid Array (FG144); Code_JEDEC: MO-192-DAD-1; ComponentLink1Description: ProASIC3 Datasheet; ComponentLink1URL: http://www.actel.com/documents/PA3_DS.pdf; ComponentLink2Description: Package Mechanical Drawings; ComponentLink2URL: http://www.actel.com/documents/PckgMechDrwngs.pdf; ComponentLink3Description: ProASIC3 Documents; ComponentLink3URL: http://www.actel.com/products/pa3/docs.aspx; ComponentLink4Description: Actel.com Home; ComponentLink4URL: http://www.actel.com/
footprint FG144 (BGA, 144-Leads, Body 13x13mm, Pitch 1mm)
signal-integrity model A3P400_FG144 (ProASIC3)
part A pins: A3 GAB0/IO02RSB0 (io), A4 GAB1/IO03RSB0 (io), A5 IO16RSB0 (io), A7 IO30RSB0 (io), A9 IO34RSB0 (io), A10 GBA0/IO58RSB0 (io), A11 GBA1/IO59RSB0 (io), B3 GAA0/IO00RSB0 (io), B4 GAA1/IO01RSB0 (io), B5 IO14RSB0 (io), B6 IO19RSB0 (io), B7 IO23RSB0 (io), B8 IO31RSB0 (io), B9 GBB0/IO56RSB0 (io), B10 GBB1/IO57RSB0 (io), C5 IO12RSB0 (io), C6 IO17RSB0 (io), C7 IO25RSB0 (io), C8 IO32RSB0 (io), C9 IO53RSB0 (io), D5 GAC0/IO04RSB0 (io), D6 GAC1/IO05RSB0 (io), D7 GBC0/IO54RSB0 (io), D8 GBC1/IO55RSB0 (io)
part B pins: C10 GBA2/IO60PDB1 (io), C11 IO60NDB1 (io), C12 GBC2/IO62PPB1 (io), D9 GBB2/IO61PDB1 (io), D10 IO61NDB1 (io), D11 IO62NPB1 (io), D12 GCB1/IO68PPB1 (io), E8 GCC1/IO67PDB1 (io), E11 GCA0/IO69NDB1 (io), E12 IO70NDB1 (io), F8 GCC0/IO67NDB1 (io), F9 GCB0/IO68NPB1 (io), F11 GCA1/IO69PDB1 (io), F12 GCA2/IO70PDB1 (io), G8 GDC1/IO77UPB1 (io), G9 IO72NDB1 (io), G10 GCC2/IO72PDB1 (io), G11 IO71NDB1 (io), G12 GCB2/IO71PDB1 (io), H6 IO75PDB1 (io), H7 IO75NDB1 (io), H9 GDC0/IO77VPB1 (io), H11 IO73PSB1 (io), J11 GDA1/IO79UDB1 (io), J12 GDB1/IO78UDB1 (io), K11 GDA0/IO79VDB1 (io), K12 GDB0/IO78VDB1 (io)
part C pins: H8 GDB2/IO81RSB2 (io), J5 IO125RSB2 (io), J6 IO116RSB2 (io), J9 GDA2/IO80RSB2 (io), K4 GEA2/IO134RSB2 (io), K5 IO127RSB2 (io), K6 IO121RSB2 (io), K8 IO104RSB2 (io), K9 GDC2/IO82RSB2 (io), L3 GEB2/IO133RSB2 (io), L4 IO128RSB2 (io), L6 IO119RSB2 (io), L7 IO114RSB2 (io), L8 IO110RSB2 (io), M2 GEC2/IO132RSB2 (io), M3 IO129RSB2 (io), M4 IO126RSB2 (io), M5 IO124RSB2 (io), M6 IO122RSB2 (io), M7 IO117RSB2 (io), M8 IO115RSB2 (io)
part D pins: B1 GAB2/IO154UDB3 (io), C1 IO154VDB3 (io), C2 GFA2/IO144PPB3 (io), C3 GAC2/IO153UDB3 (io), D1 IO149NDB3 (io), D2 IO149PDB3 (io), D3 IO153VDB3 (io), D4 GAA2/IO155UPB3 (io), E2 GFC0/IO147NDB3 (io), E3 GFC1/IO147PDB3 (io), E5 IO155VPB3 (io), F1 GFB0/IO146NPB3 (io), F3 GFB1/IO146PPB3 (io), F4 IO144NPB3 (io), G1 GFA1/IO145PPB3 (io), G4 GFA0/IO145NPB3 (io), H2 GFB2/IO143PDB3 (io), H3 GFC2/IO142PSB3 (io), H4 GEC1/IO137PDB3 (io), J1 GEB1/IO136PDB3 (io), J2 IO143NDB3 (io), J4 GEC0/IO137NDB3 (io), K1 GEB0/IO136NDB3 (io), K2 GEA1/IO135PDB3 (io), K3 GEA0/IO135NDB3 (io)
part E pins: J8 TCK (in), J10 TDO (out), L9 TMS (in), L12 ~{TRST} (in), M9 TDI (in)
part F pins: A2 VMV0 (power), A8 VCC (power), B12 VMV1 (power), C4 VCC (power), E1 VCC (power), E4 VCCIB3 (power), E6 VCCIB0 (power), E7 VCCIB0 (power), E9 VCCIB1 (power), E10 VCC (power), G3 VCCPLF (power), H1 VCC (power), H5 VCC (power), H10 VCCIB1 (power), H12 VCC (power), J3 VCCIB3 (power), J7 VCC (power), L2 VMV3 (power), L5 VCCIB2 (power), L10 VJTAG (power), L11 VMV2 (power), M10 VCCIB2 (power), M11 VPUMP (power)
part G pins: A1 GNDQ (power), A6 GND (power), A12 GNDQ (power), B2 GND (power), B11 GND (power), F2 VCOMPLF (power), F5 GND (power), F6 GND (power), F7 GND (power), F10 GND (power), G2 GND (power), G5 GND (power), G6 GND (power), G7 GND (power), K7 GND (power), K10 GND (power), L1 GND (power), M1 GNDQ (power), M12 GNDQ (power)
part A text: BANK 0
part B text: BANK 1
part C text: BANK 2
part D text: BANK 3